# Altium schematic symbol library lib.SchLib: 480 symbols (part 5 of 6)
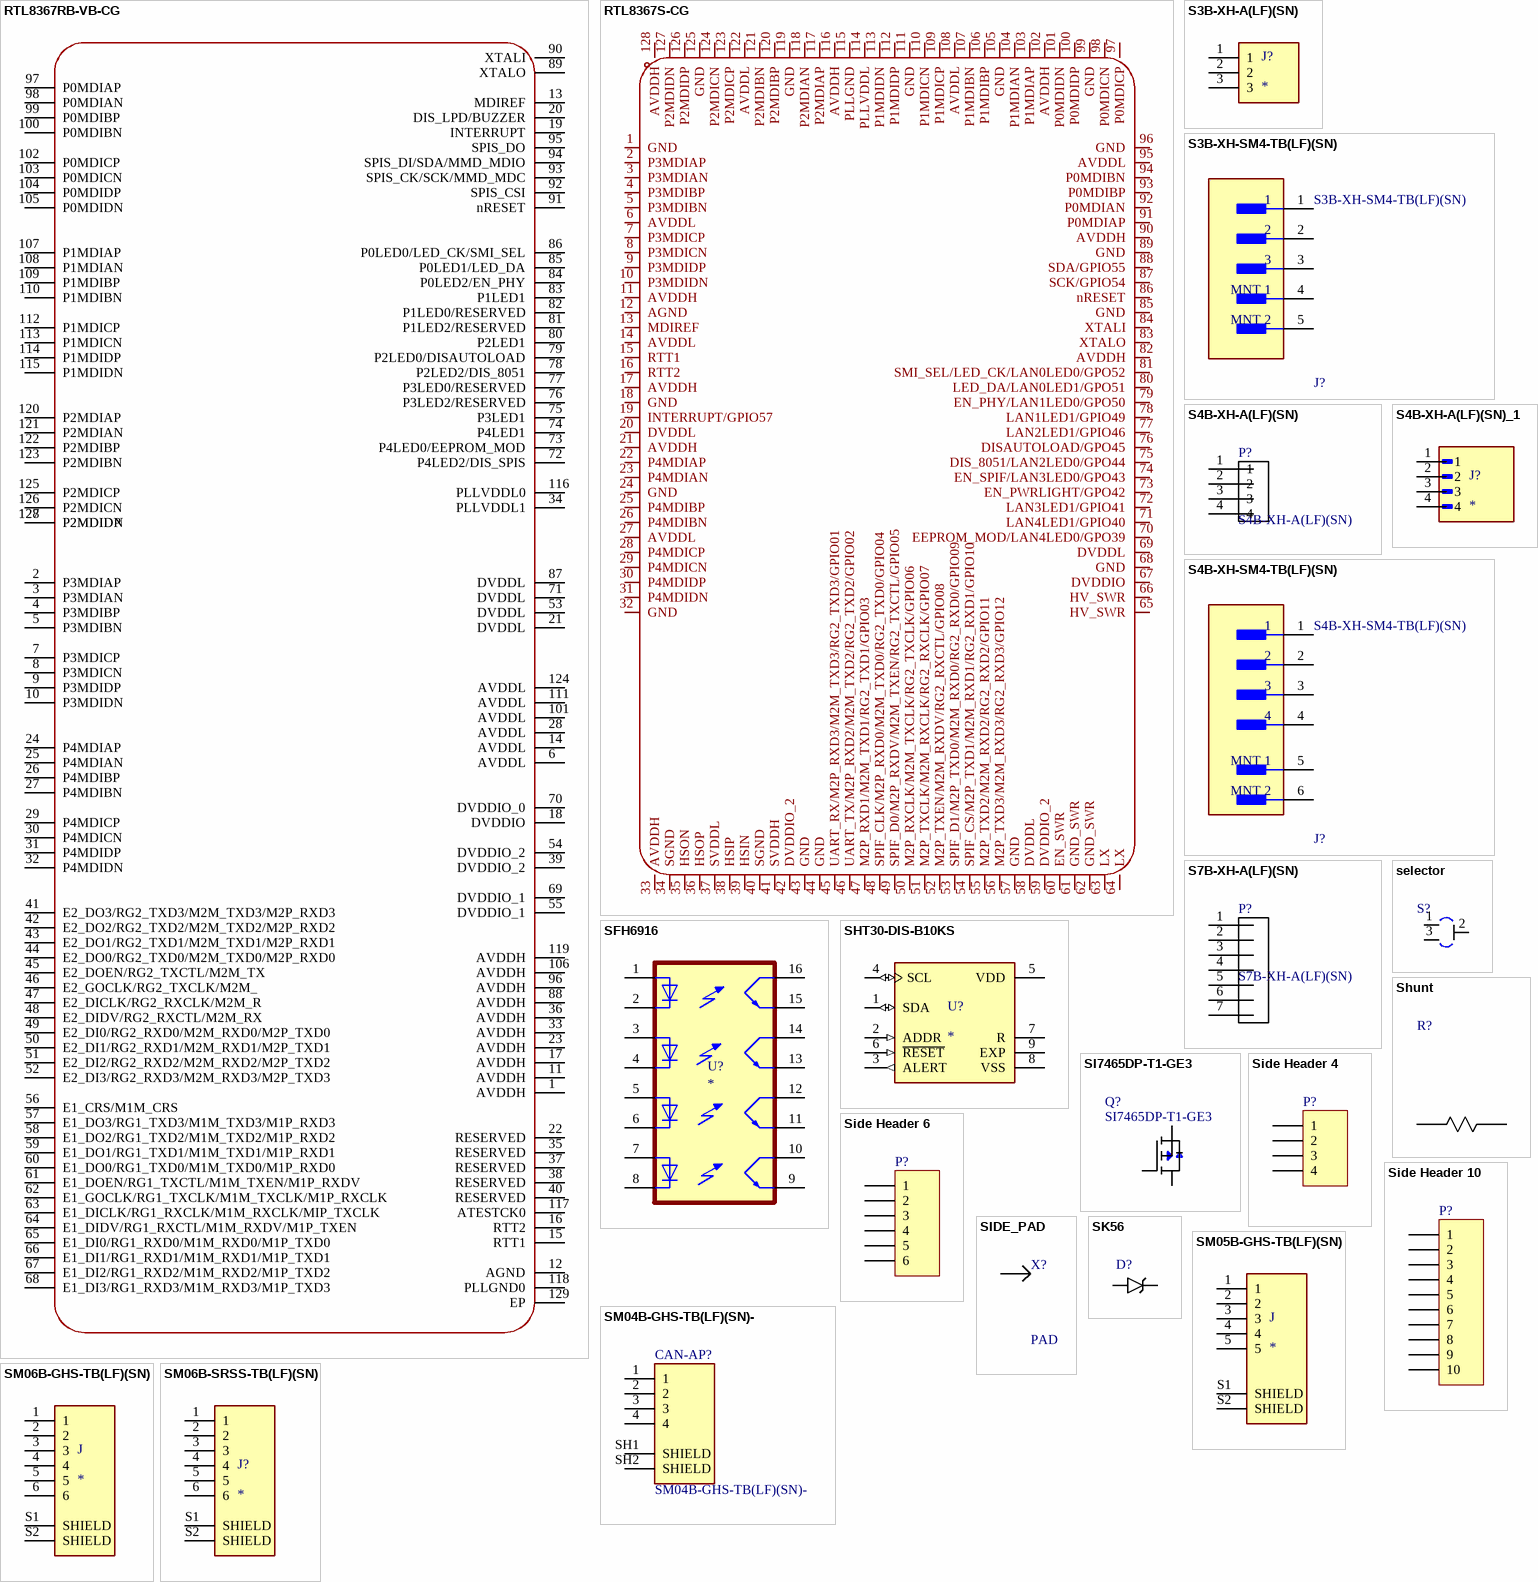
[diagram p24: symbols RTL8367RB-VB-CG to SM06B-SRSS-TB(LF)(SN)]

## RTL8367RB-VB-CG
designator U??  (value not drawn)
MF: REALTEK(瑞昱); Pacage: LQFP-128; Add into BOM: yes; Symbol: RTL8367RB-VB-CG; Device: RTL8367RB-VB-CG; LCSC Part Name: RTL8367RB-VB-CG; Supplier Part: C2761412; MP: RTL8367RB-VB-CG; JLCPCB Part Class: Extended Part; HelpURL: https://lcsc.com/product-detail/Ethernet-Transceivers_Realtek-Semicon-RTL8367RB-VB-CG_C2761412.html?s_z=n_rtl8367; Supplier: LCSC; Convert to PCB: yes; Applications Function: -; Number of Channels: -; Interface: -
footprint LQFP-128_L14.0-W14.0-P0.40-LS16.0-BL-EP5.8
pins: 1 AVDDH, 2 P3MDIAP, 3 P3MDIAN, 4 P3MDIBP, 5 P3MDIBN, 6 AVDDL, 7 P3MDICP, 8 P3MDICN, 9 P3MDIDP, 10 P3MDIDN, 11 AVDDH, 12 AGND, 13 MDIREF, 14 AVDDL, 15 RTT1, 16 RTT2, 17 AVDDH, 18 DVDDIO, 19 INTERRUPT, 20 DIS_LPD/BUZZER, 21 DVDDL, 22 RESERVED, 23 AVDDH, 24 P4MDIAP, 25 P4MDIAN, 26 P4MDIBP, 27 P4MDIBN, 28 AVDDL, 29 P4MDICP, 30 P4MDICN, 31 P4MDIDP, 32 P4MDIDN, 33 AVDDH, 34 PLLVDDL1, 35 RESERVED, 36 AVDDH, 37 RESERVED, 38 RESERVED, 39 DVDDIO_2, 40 RESERVED, 41 E2_DO3/RG2_TXD3/M2M_TXD3/M2P_RXD3, 42 E2_DO2/RG2_TXD2/M2M_TXD2/M2P_RXD2, 43 E2_DO1/RG2_TXD1/M2M_TXD1/M2P_RXD1, 44 E2_DO0/RG2_TXD0/M2M_TXD0/M2P_RXD0, 45 E2_DOEN/RG2_TXCTL/M2M_TX, 46 E2_GOCLK/RG2_TXCLK/M2M_, 47 E2_DICLK/RG2_RXCLK/M2M_R, 48 E2_DIDV/RG2_RXCTL/M2M_RX, 49 E2_DI0/RG2_RXD0/M2M_RXD0/M2P_TXD0, 50 E2_DI1/RG2_RXD1/M2M_RXD1/M2P_TXD1, 51 E2_DI2/RG2_RXD2/M2M_RXD2/M2P_TXD2, 52 E2_DI3/RG2_RXD3/M2M_RXD3/M2P_TXD3, 53 DVDDL, 54 DVDDIO_2, 55 DVDDIO_1, 56 E1_CRS/M1M_CRS, 57 E1_DO3/RG1_TXD3/M1M_TXD3/M1P_RXD3, 58 E1_DO2/RG1_TXD2/M1M_TXD2/M1P_RXD2, 59 E1_DO1/RG1_TXD1/M1M_TXD1/M1P_RXD1, 60 E1_DO0/RG1_TXD0/M1M_TXD0/M1P_RXD0, 61 E1_DOEN/RG1_TXCTL/M1M_TXEN/M1P_RXDV, 62 E1_GOCLK/RG1_TXCLK/M1M_TXCLK/M1P_RXCLK, 63 E1_DICLK/RG1_RXCLK/M1M_RXCLK/MIP_TXCLK, 64 E1_DIDV/RG1_RXCTL/M1M_RXDV/M1P_TXEN, 65 E1_DI0/RG1_RXD0/M1M_RXD0/M1P_TXD0, 66 E1_DI1/RG1_RXD1/M1M_RXD1/M1P_TXD1, 67 E1_DI2/RG1_RXD2/M1M_RXD2/M1P_TXD2, 68 E1_DI3/RG1_RXD3/M1M_RXD3/M1P_TXD3, 69 DVDDIO_1, 70 DVDDIO_0, 71 DVDDL, 72 P4LED2/DIS_SPIS, 73 P4LED0/EEPROM_MOD, 74 P4LED1, 75 P3LED1, 76 P3LED2/RESERVED, 77 P3LED0/RESERVED, 78 P2LED2/DIS_8051, 79 P2LED0/DISAUTOLOAD, 80 P2LED1, 81 P1LED2/RESERVED, 82 P1LED0/RESERVED, 83 P1LED1, 84 P0LED2/EN_PHY, 85 P0LED1/LED_DA, 86 P0LED0/LED_CK/SMI_SEL, 87 DVDDL, 88 AVDDH, 89 XTALO, 90 XTALI, 91 nRESET, 92 SPIS_CSI, 93 SPIS_CK/SCK/MMD_MDC, 94 SPIS_DI/SDA/MMD_MDIO, 95 SPIS_DO, 96 AVDDH, 97 P0MDIAP, 98 P0MDIAN, 99 P0MDIBP, 100 P0MDIBN, 101 AVDDL, 102 P0MDICP, 103 P0MDICN, 104 P0MDIDP, 105 P0MDIDN, 106 AVDDH, 107 P1MDIAP, 108 P1MDIAN, 109 P1MDIBP, 110 P1MDIBN, 111 AVDDL, 112 P1MDICP, 113 P1MDICN, 114 P1MDIDP, 115 P1MDIDN, 116 PLLVDDL0, 117 ATESTCK0, 118 PLLGND0, 119 AVDDH, 120 P2MDIAP, 121 P2MDIAN, 122 P2MDIBP, 123 P2MDIBN, 124 AVDDL, 125 P2MDICP, 126 P2MDICN, 127 P2MDIDP, 128 P2MDIDN, 129 EP

## RTL8367S-CG
designator U?  (value not drawn)
MF: REALTEK(瑞昱); Pacage: LQFP-128(14x14); Add into BOM: yes; Interface: RGMII；SGMII；HSGMII；MII; Voltage - Supply: 3.3V; Symbol: RTL8367S-CG; Device: RTL8367S-CG; LCSC Part Name: 5+2端口10/100/1000M交换控制器; Supplier Part: C2760849; MP: RTL8367S-CG; JLCPCB Part Class: Extended Part; HelpURL: https://atta.szlcsc.com/upload/public/pdf/source/20210312/C2760849_DBB14B3E68930BABDDEF1D9096175019.pdf; Supplier: LCSC; Convert to PCB: yes; Applications Function: -; Number of Channels: -; Operating Temperature: -
footprint LQFP-128_L14.0-W14.0-P0.40-LS16.0-BL
pins: 1 GND, 2 P3MDIAP, 3 P3MDIAN, 4 P3MDIBP, 5 P3MDIBN, 6 AVDDL, 7 P3MDICP, 8 P3MDICN, 9 P3MDIDP, 10 P3MDIDN, 11 AVDDH, 12 AGND, 13 MDIREF, 14 AVDDL, 15 RTT1, 16 RTT2, 17 AVDDH, 18 GND, 19 INTERRUPT/GPIO57, 20 DVDDL, 21 AVDDH, 22 P4MDIAP, 23 P4MDIAN, 24 GND, 25 P4MDIBP, 26 P4MDIBN, 27 AVDDL, 28 P4MDICP, 29 P4MDICN, 30 P4MDIDP, 31 P4MDIDN, 32 GND, 33 AVDDH, 34 SGND, 35 HSON, 36 HSOP, 37 SVDDL, 38 HSIP, 39 HSIN, 40 SGND, 41 SVDDH, 42 DVDDIO_2, 43 GND, 44 GND, 45 UART_RX/M2P_RXD3/M2M_TXD3/RG2_TXD3/GPIO01, 46 UART_TX/M2P_RXD2/M2M_TXD2/RG2_TXD2/GPIO02, 47 M2P_RXD1/M2M_TXD1/RG2_TXD1/GPIO03, 48 SPIF_CLK/M2P_RXD0/M2M_TXD0/RG2_TXD0/GPIO04, 49 SPIF_D0/M2P_RXDV/M2M_TXEN/RG2_TXCTL/GPIO05, 50 M2P_RXCLK/M2M_TXCLK/RG2_TXCLK/GPIO06, 51 M2P_TXCLK/M2M_RXCLK/RG2_RXCLK/GPIO07, 52 M2P_TXEN/M2M_RXDV/RG2_RXCTL/GPIO08, 53 SPIF_D1/M2P_TXD0/M2M_RXD0/RG2_RXD0/GPIO09, 54 SPIF_CS/M2P_TXD1/M2M_RXD1/RG2_RXD1/GPIO10, 55 M2P_TXD2/M2M_RXD2/RG2_RXD2/GPIO11, 56 M2P_TXD3/M2M_RXD3/RG2_RXD3/GPIO12, 57 GND, 58 DVDDL, 59 DVDDIO_2, 60 EN_SWR, 61 GND_SWR, 62 GND_SWR, 63 LX, 64 LX, 65 HV_SWR, 66 HV_SWR, 67 DVDDIO, 68 GND, 69 DVDDL, 70 EEPROM_MOD/LAN4LED0/GPO39, 71 LAN4LED1/GPIO40, 72 LAN3LED1/GPIO41, 73 EN_PWRLIGHT/GPO42, 74 EN_SPIF/LAN3LED0/GPO43, 75 DIS_8051/LAN2LED0/GPO44, 76 DISAUTOLOAD/GPO45, 77 LAN2LED1/GPIO46, 78 LAN1LED1/GPIO49, 79 EN_PHY/LAN1LED0/GPO50, 80 LED_DA/LAN0LED1/GPO51, 81 SMI_SEL/LED_CK/LAN0LED0/GPO52, 82 AVDDH, 83 XTALO, 84 XTALI, 85 GND, 86 nRESET, 87 SCK/GPIO54, 88 SDA/GPIO55, 89 GND, 90 AVDDH, 91 P0MDIAP, 92 P0MDIAN, 93 P0MDIBP, 94 P0MDIBN, 95 AVDDL, 96 GND, 97 P0MDICP, 98 P0MDICN, 99 GND, 100 P0MDIDP, 101 P0MDIDN, 102 AVDDH, 103 P1MDIAP, 104 P1MDIAN, 105 GND, 106 P1MDIBP, 107 P1MDIBN, 108 AVDDL, 109 P1MDICP, 110 P1MDICN, 111 GND, 112 P1MDIDP, 113 P1MDIDN, 114 PLLVDDL, 115 PLLGND, 116 AVDDH, 117 P2MDIAP, 118 P2MDIAN, 119 GND, 120 P2MDIBP, 121 P2MDIBN, 122 AVDDL, 123 P2MDICP, 124 P2MDICN, 125 GND, 126 P2MDIDP, 127 P2MDIDN, 128 AVDDH

## S3B-XH-A(LF)(SN)
designator J?
Connector Header Through Hole, Right Angle 3 position 0.098 _2.50mm_; MP: S3B-XH-A_LF__SN_; MF: JST Sales; SnapEDA_Link: https://www.snapeda.com/parts/S3B-XH-A%28LF%29%28SN%29/JST%20Sales%20America%20Inc./view-part/46873/?ref=snap; Package: FakePackage u; Value: *; HelpURL: https://static.chipdip.ru/lib/060/DOC000060506.pdf
footprint JST_S3B-XH-A(LF)(SN)
pins: 1, 2, 3

## S3B-XH-SM4-TB(LF)(SN)
designator J?
CONN HEADER SMD R/A 3POS 2.5MM; MF: JST Sales; System: Connector; Number of Positions: 3; Max Current Rating: 3A; Gender: Male; Max Voltage Rating (AC): 250V; Contact Resistance: 20mR; Connector Type: Male Pin; MP: S3B-XH-SM4-TB(LF)(SN); HelpURL: https://www.lcsc.com/product-detail/C5306495.html; Packaging: Tape and Reel; Number of Contacts: 3; REACH SVHC: No SVHC; Housing Color: Beige; Mount: Surface Mount; Contact Material: Copper Alloy; Package Quantity: 1; Color: Natural; Min Operating Temperature: -25°C; Termination: Solder; Fastening Type: Detent; Pitch: 2.5mm; Lead Free: Lead Free; Length: 12.5mm; Depth: 10mm; Contact Plating: Tin; Contact Type: Male Pin
footprint FP-S3B-XH-SM4-TB_LF_SN-MFG
pins: 1, 2, 3, 4 MNT 1, 5 MNT 2

## S4B-XH-A(LF)(SN)
designator P?
XH Series 4 Position 2.5 mm Through Hole Right Angle Press Fit Shrouded Header; MF: JST Sales; Package: None; SnapEDA_Link: https://www.snapeda.com/parts/S4B-XH-A%28LF%29%28SN%29/JST%20Sales%20America%20Inc./view-part/?ref=snap; MP: S4B-XH-A(LF)(SN); Value: *; HelpURL: https://static.chipdip.ru/lib/060/DOC000060506.pdf
footprint *JST_S4B-XH-A(LF)(SN)
pins: 1, 2, 3, 4

## S4B-XH-A(LF)(SN)_1
designator J?
MP: S4B-XH-A(LF)(SN); Package: None; Price: None; Value: *; Availability: Unavailable; HelpURL: *
footprint JST_S4B-XH-A(LF)(SN)
pins: 1, 2, 3, 4

## S4B-XH-SM4-TB(LF)(SN)
designator J?
CONN HEADER SMD R/A 4POS 2.5MM; MF: JST Sales; System: Beige; Max Current Rating: 3A; Max Voltage Rating (AC): 250V; Connector Type: Male Pin; Contact Resistance: 20mR; Gender: Male; Pitch: 0.098inch; Number of Contacts: 4; MP: S4B-XH-SM4-TB(LF)(SN); HelpURL: https://www.lcsc.com/product-detail/C161861.html; Depth: 10mm; Series: XH; Package Quantity: 1; Length: 15mm; Contact Material: Copper Alloy; Min Operating Temperature: -25°C; REACH SVHC: No SVHC; Orientation: Right Angle; Number of Rows: 1; Contact Type: Male Pin; Color: Natural; Lead Free: Lead Free; Termination: Solder; Mount: Surface Mount; Packaging: Tape and Reel
footprint FP-S4B-XH-SM4-TB_LF_SN-MFG
pins: 1, 2, 3, 4, 5 MNT 1, 6 MNT 2

## S7B-XH-A(LF)(SN)
designator P?
XH Series 7 Position 2.5 mm Through Hole Right Angle Press Fit Shrouded Header; MP: S7B-XH-A_LF__SN_; MF: JST Sales; Package: None; SnapEDA_Link: https://www.snapeda.com/parts/S4B-XH-A%28LF%29%28SN%29/JST%20Sales%20America%20Inc./view-part/?ref=snap; Value: *; HelpURL: https://static.chipdip.ru/lib/060/DOC000060506.pdf
footprint *JST_S7B-XH-A(LF)(SN)
pins: 1, 2, 3, 4, 5, 6, 7

## selector
designator S?  (value not drawn)
footprint SELECTOR
pins: 1 IN1, 2 MID, 3 IN3

## SFH6916
designator U?
MP: SFH6916; MF: {'manufacturer': u'Vishay'}; Package: None; Value: *; ChipDip_Link: https://www.chipdip.ru/product/sfh6916-vishay; HelpURL: https://static.chipdip.ru/lib/832/DOC004832103.pdf
footprint SOIC127P686X203-16N
pins: 1 A1, 2 C1, 3 A2, 4 C2, 5 A3, 6 C3, 7 A4, 8 C4, 9 E4, 10 CO4, 11 E3, 12 CO3, 13 E2, 14 CO2, 15 E1, 16 CO1

## SHT30-DIS-B10KS
designator U?
SENSOR HUMID/TEMP 5V I2C 2% SMD; MP: SHT30-DIS-B10KS; Package: None; Price: None; Value: *; Availability: Unavailable; HelpURL: https://www.mouser.com/datasheet/2/682/Sensirion_Humidity_Sensors_SHT3x_Datasheet_digital-971521.pdf
footprint XDCR_SHT30-DIS-B10KS
pins: 1 SDA (io), 2 ADDR (in), 3 ALERT (out), 4 SCL (io), 5 VDD (power), 6 ~{RESET} (in), 7 R, 8 VSS (power), 9 EXP

## Shunt
designator R?
TLRS157560QR001FTDG SMD 7 Вт R001 0,001 Ом Точность 1% SMD 1575; Package: 1575; SnapEDA_Link: https://aliexpress.ru/item/32903300292.html; MP: TLRS157560QR001FTDG; Value: *; HelpURL: https://static.chipdip.ru/lib/760/DOC000760853.pdf
footprint SHUNT
pins: 1, 2

## SI7465DP-T1-GE3
designator Q?
SI7465DP-T1-GE3 P-Channel 60 V (D-S) MOSFET; Value: *; ChipDip_Link: https://www.chipdip.ru/product1/8000893925; HelpURL: https://www.vishay.com/docs/73113/73113.pdf
footprint PowerTDFN-8
pins: D, G, S

## Side Header 4
designator P?
Header, 4-Pin
signal-integrity model Connector
footprint HDR1X4 (Connector; Header; 4 Position)
pins: 1, 2, 3, 4

## Side Header 6
designator P?
Header, 4-Pin
signal-integrity model Connector
footprint HDR Side 6 pin
footprint 6pin 1.5pitch
pins: 1, 2, 3, 4, 5, 6

## Side Header 10
designator P?
Header, 4-Pin
signal-integrity model Connector
footprint WING X5
pins: 1, 2, 3, 4, 5, 6, 7, 8, 9, 10

## SIDE_PAD
designator X?, comment PAD
Header 1; System: Connector; MF: Connfly electronic (Zhenqin); MP: PLS-3 (DS1021-1x3); Type: SMD; ChipDip_Link: https://www.chipdip.ru/product/pls-3; HelpURL: https://static.chipdip.ru/lib/227/DOC000227157.pdf
footprint SIDE_PAD
pins: 1

## SK56
designator D?  (value not drawn)
Диод Шоттки 5А 60В [SMB / DO-214AA]; MF: Littelfuse Inc.; Type: SMD; MP: SK56; Package: DO-214 Littelfuse; SnapEDA_Link: https://www.snapeda.com/parts/P6SMB62AT3G/Littelfuse%20Inc./view-part/?ref=snap; Value: *; ChipDip_Link: https://www.chipdip.ru/product/sk56
footprint *SMB_P6SMB62AT3G(Primary)
pins: A (power), C (power)

## SM04B-GHS-TB(LF)(SN)-
designator CAN-AP?
Connector Header Surface Mount, Right Angle 4 position 0.049 _1.25mm_; MF: JST Sales; MP: SM04B-GHS-TB(LF)(SN); Package: None; Value: *; SnapEDA_Link: https://www.snapeda.com/parts/SM04B-GHS-TB%28LF%29%28SN%29-/JST%20Sales%20America%20Inc./view-part/2759740/?ref=snap; HelpURL: http://www.farnell.com/datasheets/2082975.pdf; System: Connector; ChipDip_Link: https://www.chipdip.ru/product/sm04b-ghs-tb-lf-sn-gh-1.25mm-header-side-ent
footprint JST_SM04B-GHS-TB(LF)(SN)-
pins: 1, 2, 3, 4, SH1 SHIELD (power), SH2 SHIELD (power)

## SM05B-GHS-TB(LF)(SN)
designator J
Connector Header Surface Mount, Right Angle 5 position 0.049" (1.25mm); MP: SM05B-GHS-TB_LF__SN_; MF: JST Sales; Value: *; Package: None; SnapEDA_Link: https://www.snapeda.com/parts/SM06B-GHS-TB%28LF%29%28SN%29/JST%20Sales%20America%20Inc./view-part/817690/?ref=snap; HelpURL: http://www.farnell.com/datasheets/2082975.pdf; System: Connector; ChipDip_Link: https://www.chipdip.ru/product1/8002005407
footprint JST_SM05B-GHS-TB(LF)(SN)
pins: 1, 2, 3, 4, 5, S1 SHIELD, S2 SHIELD

## SM06B-GHS-TB(LF)(SN)
designator J
Connector Header Surface Mount, Right Angle 6 position 0.049" (1.25mm); MP: SM06B-GHS-TB_LF__SN_; MF: JST Sales; Value: *; Package: None; SnapEDA_Link: https://www.snapeda.com/parts/SM06B-GHS-TB%28LF%29%28SN%29/JST%20Sales%20America%20Inc./view-part/817690/?ref=snap; HelpURL: http://www.farnell.com/datasheets/2082975.pdf; System: Connector; ChipDip_Link: https://www.chipdip.ru/product1/8002005407
footprint JST_SM06B-GHS-TB(LF)(SN)
pins: 1, 2, 3, 4, 5, 6, S1 SHIELD, S2 SHIELD

## SM06B-SRSS-TB(LF)(SN)
designator J?
Connector Header Surface Mount, Right Angle 6 position 0.039 _1.00mm_; MP: SM06B-SRSS-TB_LF__SN_; MF: JST Sales; Package: None; Value: *; SnapEDA_Link: https://www.snapeda.com/parts/SM06B-SRSS-TB%28LF%29%28SN%29/JST%20Sales%20America%20Inc./view-part/554386/?ref=snap; Digi-Key_Purchase_URL: https://www.digikey.com/product-detail/en/jst-sales-america-inc/SM06B-SRSS-TB_LF__SN_/455-1806-1-ND/926877?utm_source=snapeda&utm_medium=aggregator&utm_campaign=symbol; Digi-Key_Part_Number: 455-1806-1-ND
footprint JST_SM06B-SRSS-TB(LF)(SN)
pins: 1, 2, 3, 4, 5, 6, S1 SHIELD, S2 SHIELD

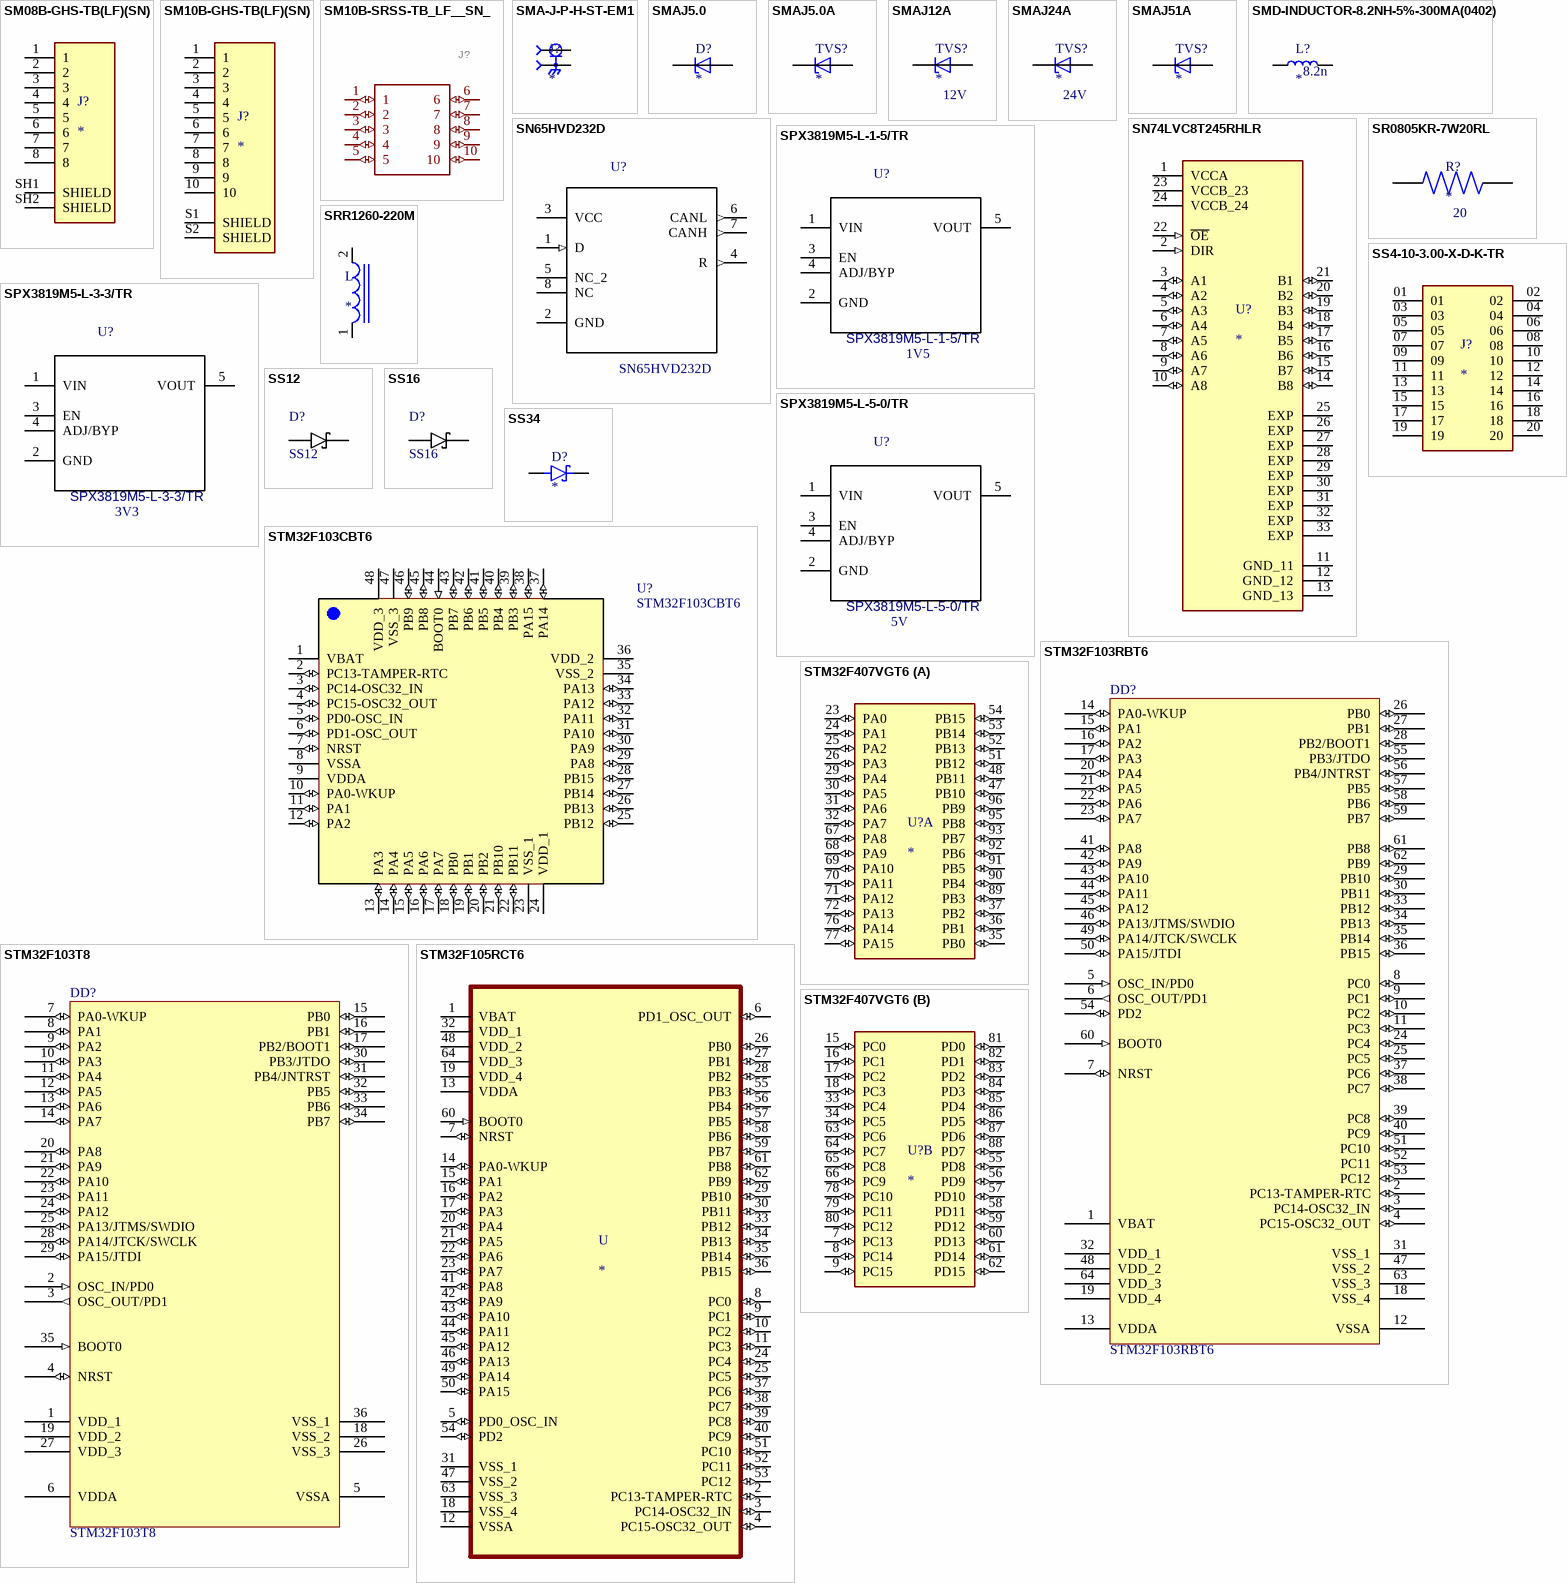
[diagram p15: symbols SM08B-GHS-TB(LF)(SN) to STM32F407VGT6]

## SM08B-GHS-TB(LF)(SN)
designator J?
Connector Header Surface Mount, Right Angle 8 position 0.049 _1.25mm_; MF: JST Sales; MP: SM08B-GHS-TB(LF)(SN); Value: *; Digi-Key_Part_Number: 455-1570-1-ND; Package: None; Digi-Key_Purchase_URL: https://www.digikey.com/product-detail/en/jst-sales-america-inc/SM08B-GHS-TB_LF__SN_/455-1570-1-ND/807838?utm_source=snapeda&utm_medium=aggregator&utm_campaign=symbol; SnapEDA_Link: https://www.snapeda.com/parts/SM08B-GHS-TB%28LF%29%28SN%29/JST%20Sales%20America%20Inc./view-part/1162121/?ref=snap
footprint JST_SM08B-GHS-TB(LF)(SN)
pins: 1, 2, 3, 4, 5, 6, 7, 8, SH1 SHIELD, SH2 SHIELD

## SM10B-GHS-TB(LF)(SN)
designator J?
Connector Header Surface Mount, Right Angle 10 position 0.049 (1.25mm); MF: JST Sales; MP: SM10B-GHS-TB(LF)(SN); Purchase-URL: https://pricing.snapeda.com/search/part/SM10B-GHS-TB(LF)(SN)/?ref=eda; Package: None; Value: *; Check_prices: https://www.snapeda.com/parts/SM10B-GHS-TB(LF)(SN)/JST+Sales+America+Inc./view-part/?ref=eda; SnapEDA_Link: https://www.snapeda.com/parts/SM10B-GHS-TB(LF)(SN)/JST+Sales+America+Inc./view-part/?ref=snap; Availability: In Stock; Price: None
footprint JST_SM10B-GHS-TB(LF)(SN)
pins: 1, 2, 3, 4, 5, 6, 7, 8, 9, 10, S1 SHIELD, S2 SHIELD

## SM10B-SRSS-TB_LF__SN_
designator J?, comment JST (JAPAN SOLDERLESS TERMINALS) - SM10B-SRSS-TB(LF)(SN) - HEADER, R/A, 10WAY   Source:  Datasheet  (value not drawn)
GateName_1: G$1; SymbolName_1: SM10B-SRSS-TB_LF__SN_; MF: JST Sales; LibraryName: SM10B-SRSS-TB_LF__SN_; DeviceSetName: SM10B-SRSS-TB_LF__SN_; Package: SM10B-SRSS-TB; Manufacturer_Name: JST (JAPAN SOLDERLESS TERMINALS); Manufacturer_Part_Number: SM10B-SRSS-TB(LF)(SN); Height: mm; MP: SM10B-SRSS-TB; HelpURL: https://www.farnell.com/datasheets/2082363.pdf
footprint SM10B-SRSS-TB
pins: 1 (io), 2 (io), 3 (io), 4 (io), 5 (io), 6 (io), 7 (io), 8 (io), 9 (io), 10 (io)

## SMA-J-P-H-ST-EM1
designator J?
SMA Connector Jack, Female Socket 50Ohm Board Edge, End Launch Solder; MF: Samtec; MP: SMA-J-P-H-ST-EM1; SnapEDA_Link: https://www.snapeda.com/parts/SMA-J-P-H-ST-EM1/Samtec%20Inc./view-part/134500/?ref=snap; Value: *; Package: None
footprint SAMTEC_SMA-J-P-H-ST-EM1
pins: 1, 2_1 2, 2_2 2, 3_1 2, 3_2 2

## SMAJ5.0
designator D?
400W, 6.9V, 10%, Unidirectional, TVS; MP: SMAJ5.0; MF: Taiwan Semiconductor; SnapEDA_Link: https://www.snapeda.com/parts/SMAJ5.0/Taiwan+Semiconductor/view-part/?ref=snap; Value: *; Package: DO-214AC-2 Taiwan Semiconductor; Price: None; Availability: In Stock; Check_prices: https://www.snapeda.com/parts/SMAJ5.0/Taiwan+Semiconductor/view-part/?ref=eda
footprint DIOM4325X250N
pins: A, C

## SMAJ5.0A
designator TVS?
5V Clamp 174A (8/20Âµs) Ipp Tvs Diode Surface Mount SMA (DO-214AC); MP: SMAJ5.0A; MF: STMicroelectronics; Value: 5v; Package: DO-214 STMicroelectronics; HelpURL: https://www.lcsc.com/datasheet/C83324.pdf
footprint DIOM4325X250N
pins: A, C

## SMAJ12A
designator TVS?  value 12V
400W, 12V, 5%, Unidirectional, TVS; MF: Taiwan Semiconductor; MP: SMAJ12A; SnapEDA_Link: https://www.snapeda.com/parts/SMAJ30A/taiwan/view-part/?ref=snap; Package: SMA-2 Taiwan Semiconductor; Check_prices: https://www.snapeda.com/parts/SMAJ30A/taiwan/view-part/?ref=eda; HelpURL: https://www.lcsc.com/datasheet/C83324.pdf
footprint DIOM4325X250N
pins: A, C

## SMAJ24A
designator TVS?  value 24V
400W, 24V, 5%, Unidirectional, TVS; MF: Taiwan Semiconductor; MP: SMAJ24A; SnapEDA_Link: https://www.snapeda.com/parts/SMAJ30A/taiwan/view-part/?ref=snap; Package: SMA-2 Taiwan Semiconductor; Check_prices: https://www.snapeda.com/parts/SMAJ30A/taiwan/view-part/?ref=eda; HelpURL: https://www.lcsc.com/datasheet/C83324.pdf
footprint DIOM4325X250N
pins: A, C

## SMAJ51A
designator TVS?
MF: Diodes Incorporated; Value: 51V; MP: SMAJ51A; Package: None; Price: None; Availability: Unavailable; HelpURL: https://www.lcsc.com/datasheet/C83324.pdf
footprint DIOM4325X250N
pins: A, C

## SMD-INDUCTOR-8.2NH-5%-300MA(0402)
designator L?  value 8.2n
8.2nH Unshielded Multilayer Inductor 550mA 240mOhm Max 0402 (1005 Metric); MP: LQG15HS8N2J02; MF: Murata Electronics; Price: None; SnapEDA_Link: https://www.snapeda.com/parts/LQG15HS8N2J02/Murata%20Electronics%20North%20America/view-part/105834/?ref=snap; Availability: Unavailable; Package: 0402 Murata; HelpURL: https://nl.mouser.com/datasheet/2/281/1/JELF243B_0010-1699614.pdf
footprint L0402
pins: 1, 2

## SN65HVD232D
designator U?
Integrated circuit: interface; CAN transceiver; Channels: 1; SO8; MF: Texas Instruments; Package: SOIC-8 Texas Instruments; SnapEDA_Link: https://www.snapeda.com/parts/SN65HVD232D/Texas%20Instruments/view-part/?ref=snap; MP: SN65HVD232D; Value: *
footprint *SOIC127P600X175-8N
pins: 1 D (in), 2 GND, 3 VCC (power), 4 R (out), 5 NC_2, 6 CANL (out), 7 CANH (out), 8 NC

## SN74LVC8T245RHLR
designator U?
8-Bit Dual-Supply Bus Transceiver with Configurable Voltage-Level Shifting and Three-State Outputs 24-VQFN -40 to 85; MF: Texas Instruments; MP: SN74LVC8T245RHLR; SnapEDA_Link: https://www.snapeda.com/parts/SN74LVC8T245RHLR/Texas%20Instruments/view-part/95619/?ref=snap; Package: VQFN-24 Texas Instruments; Value: *; ChipDip_Link: https://www.chipdip.ru/product0/8000624338; HelpURL: https://www.ti.com/lit/ds/symlink/sn74lvc8t245.pdf?HQS=dis-mous-null-mousermode-dsf-pf-null-wwe&ts=1619589812469&ref_url=https%253A%252F%252Fru.mouser.com%252F
footprint IC_SN74LVC8T245RHLR
pins: 1 VCCA (power), 2 DIR (in), 3 A1 (io), 4 A2 (io), 5 A3 (io), 6 A4 (io), 7 A5 (io), 8 A6 (io), 9 A7 (io), 10 A8 (io), 11 GND_11 (power), 12 GND_12 (power), 13 GND_13 (power), 14 B8 (io), 15 B7 (io), 16 B6 (io), 17 B5 (io), 18 B4 (io), 19 B3 (io), 20 B2 (io), 21 B1 (io), 22 ~{OE} (in), 23 VCCB_23 (power), 24 VCCB_24 (power), 25 EXP, 26 EXP, 27 EXP, 28 EXP, 29 EXP, 30 EXP, 31 EXP, 32 EXP, 33 EXP

## SPX3819M5-L-1-5/TR
designator U?  value 1V5  (hidden comment: SPX3819M5-L-1-5/TR)
Low Dropout Voltage Regulator, 1.5V 0.5A, В±1%, 2.5 to 16 Vin, 5-Pin SOT-23; MF: MaxLinear, Inc.; Package: SOT-23-5 Exar; SnapEDA_Link: https://www.snapeda.com/parts/SPX3819M5-L/MaxLinear%2C%20Inc./view-part/?ref=snap; Type: SMD; ChipDip_Link: https://www.chipdip.ru/product/spx3819m5-l-3-3-tr; HelpURL: http://www.farnell.com/datasheets/2614478.pdf; MP: SPX3819M5-L-1-5/TR
footprint *SOT95P280X145-5N
pins: 1 VIN (power), 2 GND, 3 EN (power), 4 ADJ/BYP, 5 VOUT (power)

## SPX3819M5-L-3-3/TR
designator U?  value 3V3  (hidden comment: SPX3819M5-L-3-3/TR)
Low Dropout Voltage Regulator, 3.3V 0.5A, В±1%, 2.5 to 16 Vin, 5-Pin SOT-23; MF: MaxLinear, Inc.; Package: SOT-23-5 Exar; SnapEDA_Link: https://www.snapeda.com/parts/SPX3819M5-L/MaxLinear%2C%20Inc./view-part/?ref=snap; Type: SMD; ChipDip_Link: https://www.chipdip.ru/product/spx3819m5-l-3-3-tr; HelpURL: http://www.farnell.com/datasheets/2614478.pdf; MP: SPX3819M5-L-3-3/TR
footprint *SOT95P280X145-5N
pins: 1 VIN (power), 2 GND, 3 EN (power), 4 ADJ/BYP, 5 VOUT (power)

## SPX3819M5-L-5-0/TR
designator U?  value 5V  (hidden comment: SPX3819M5-L-5-0/TR)
Low Dropout Voltage Regulator, 5V 0.5A, В±1%, 2.5 to 16 Vin, 5-Pin SOT-23; MF: MaxLinear, Inc.; Package: SOT-23-5 Exar; SnapEDA_Link: https://www.snapeda.com/parts/SPX3819M5-L/MaxLinear%2C%20Inc./view-part/?ref=snap; Type: SMD; ChipDip_Link: https://www.chipdip.ru/product/spx3819m5-l-3-3-tr; HelpURL: http://www.farnell.com/datasheets/2614478.pdf; MP: SPX3819M5-L-5-0/TR
footprint *SOT95P280X145-5N
pins: 1 VIN (power), 2 GND, 3 EN (power), 4 ADJ/BYP, 5 VOUT (power)

## SR0805KR-7W20RL
designator R?  value 20
MP: SR0805KR-7W20RL; Package: None; Price: None; Availability: Unavailable
footprint RESC2012X60N
pins: 1, 2

## SRR1260-220M
designator L
22ÂµH Shielded Wirewound Inductor 4A 43mOhm Max Nonstandard; MF: Bourns - J.W. Miller; Value: 22u; MP: SRR1260-220M; Package: Nonstandard Bourns - J.W. Miller; Price: None; Availability: Unavailable; SnapEDA_Link: https://www.snapeda.com/parts/SRR1260-220M/Bourns%20-%20J.W.%20Miller/view-part/50176/?ref=snap; HelpURL: https://www.lcsc.com/product-detail/C3224283.html?s_z=n_4A%252022uH
footprint INDP125125X600N
pins: 1, 2

## SS4-10-3.00-X-D-K-TR
designator J?
20 Position Connector Socket, Outer Shroud Contacts Surface Mount Gold; MP: SS4-10-3.00-L-D-K-TR; MF: Samtec; SnapEDA_Link: https://www.snapeda.com/parts/SS4-10-3.00-L-D-K-TR/Samtec%20Inc./view-part/230205/?ref=snap; Package: None; Purchase-URL: https://pricing.snapeda.com/search/part/SS4-10-3.00-L-D-K-TR/?ref=eda; Availability: In Stock; Price: None; Check_prices: https://www.snapeda.com/parts/SS4-10-3.00-L-D-K-TR/Samtec%20Inc./view-part/230205/?ref=eda; Value: *
footprint SAMTEC_SS4-10-3.00-X-D-K-TR
pins: 01, 02, 03, 04, 05, 06, 07, 08, 09, 10, 11, 12, 13, 14, 15, 16, 17, 18, 19, 20

## SS12
designator D?
Diode Schottky 20V 1A Surface Mount SMA; Type: SMD; SnapEDA_Link: https://www.snapeda.com/parts/SS16/ON%20Semiconductor/view-part/?ref=search&t=ss16; Value: *; ChipDip_Link: https://www.chipdip.ru/product/ss16; HelpURL: https://www.vishay.com/docs/88746/ss12.pdf; MP: SS12; Package: SMA-2
footprint *DIOM5227X250N_SS16(Primary)
pins: A, C K

## SS16
designator D?
Diode Schottky 60V 1A Surface Mount SMA; Type: SMD; SnapEDA_Link: https://www.snapeda.com/parts/SS16/ON%20Semiconductor/view-part/?ref=search&t=ss16; Value: *; ChipDip_Link: https://www.chipdip.ru/product/ss16; HelpURL: https://www.vishay.com/docs/88746/ss12.pdf; MP: SS16; Package: SMA-2
footprint *DIOM5227X250N_SS16(Primary)
pins: A, C K

## SS34
designator D?
3A, 40V, Schottky Rectifier; MF: Taiwan Semiconductor; MP: SS34; SnapEDA_Link: https://www.snapeda.com/parts/SS34/Taiwan+Semiconductor/view-part/?ref=snap; Package: SMC-2 Taiwan Semiconductor; Value: *; Check_prices: https://www.snapeda.com/parts/SS34/Taiwan+Semiconductor/view-part/?ref=eda; HelpURL: https://www.vishay.com/docs/88751/ss32.pdf
footprint DIOM6859X262N
pins: A, C K

## STM32F103CBT6
designator U?
ARM® Cortex®-M3 STM32F1 Microcontroller IC 32-Bit 72MHz 128KB (128K x 8) FLASH; MF: STM; ChipDip_Link: https://www.chipdip.ru/product/stm32f103cbt6; HelpURL: https://static.chipdip.ru/lib/235/DOC000235733.pdf; MP: STM32F103CBT6; Package: LQFP-48; SnapEDA_Link: https://www.snapeda.com/parts/STM32F103CBT6/STMicroelectronics/view-part/?ref=search&t=STM32F103CBT6; Type: SMD
footprint STM-LQFP48_N (QFP, 48-Leads, Body 7x7mm, Pitch 0.5mm, IPC Medium Density)
footprint STM-LQFP48_L (QFP, 48-Leads, Body 7x7mm, Pitch 0.5mm, IPC High Density)
footprint STM-LQFP48_M (QFP, 48-Leads, Body 7x7mm, Pitch 0.5mm, IPC Low Density)
pins: 1 VBAT (power), 2 PC13-TAMPER-RTC (io) "PC13-TAMPER-RTC/PC13/TAMPER-RTC", 3 PC14-OSC32_IN (io) "PC14-OSC32_IN/PC14/OSC32_IN", 4 PC15-OSC32_OUT (io) "PC15-OSC32_OUT/PC15/OSC32_OUT", 5 PD0-OSC_IN (io) "PD0/OSC_IN", 6 PD1-OSC_OUT (io) "PD1/OSC_OUT", 7 NRST (io), 8 VSSA (power), 9 VDDA (power), 10 PA0-WKUP (io) "PA0-WKUP/PA0/WKUP/USART2_CTS/ADC12_IN0/TIM2_CH1_ETR", 11 PA1 (io) "PA1/USART2_RTS/ADC12_IN1/TIM2_CH2", 12 PA2 (io) "PA2/USART2_TX/ADC12_IN2/TIM2_CH3", 13 PA3 (io) "PA3/USART2_RX/ADC12_IN3/TIM2_CH4", 14 PA4 (io) "PA4/SPI1_NSS/USART2_CK/ADC12_IN4", 15 PA5 (io) "PA5/SPI1_SCK/ADC12_IN5", 16 PA6 (io) "PA6/SPI1_MISO/ADC12_IN6/TIM3_CH1/TIM1_BKIN", 17 PA7 (io) "PA7/SPI1_MOSI/ADC12_IN7/TIM3_CH2/TIM1_CH1N", 18 PB0 (io) "PB0/ADC12_IN8/TIM3_CH3/TIM1_CH2N", 19 PB1 (io) "PB1/ADC12_IN9/TIM3_CH4/TIM1_CH3N", 20 PB2 (io) "PB2/BOOT1", 21 PB10 (io) "PB10/I2C2_SCL/USART3_TX/TIM2_CH3", 22 PB11 (io) "PB11/I2C2_SDA/USART3_RX/TIM2_CH4", 23 VSS_1 (power), 24 VDD_1 (power), 25 PB12 (io) "PB12/SPI2_NSS/I2C2_SMBAl/USART3_CK/TIM1_BKIN", 26 PB13 (io) "PB13/SPI2_SCK/USART3_CTS/TIM1_CH1N", 27 PB14 (io) "PB14/SPI2_MISO/USART3_RTS/TIM1_CH2N", 28 PB15 (io) "PB15/SPI2_MOSI/TIM1_CH3N", 29 PA8 (io) "PA8/USART1_CK/TIM1_CH1/MCO", 30 PA9 (io) "PA9/USART1_TX/TIM1_CH2", 31 PA10 (io) "PA10/USART1_RX/TIM1_CH3", 32 PA11 (io) "PA11/USART1_CTS/CANRX/USBDM/TIM1_CH4", 33 PA12 (io) "PA12/USART1_RTS/CANTX/USBDP/TIM1_ETR", 34 PA13 (io) "PA13/JTMS/SWDIO", 35 VSS_2 (power), 36 VDD_2 (power), 37 PA14 (io) "PA14/JTCK/SWCLK", 38 PA15 (io) "PA15/JTDI/TIM2_CH1_ETR/SPI1_NSS", 39 PB3 (io) "PB3/JTDO/TIM2_CH2/TRACESWO/SPI1_SCK", 40 PB4 (io) "PB4/NJTRST/TIM3_CH1/SPI1_MISO", 41 PB5 (io) "PB5/I2C1_SMBAI/TIM3_CH2/SPI1_MOSI", 42 PB6 (io) "PB6/I2C1_SCL/TIM4_CH1/USART1_TX", 43 PB7 (io) "PB7/I2C1_SDA/TIM4_CH2/USART1_RX", 44 BOOT0 (in), 45 PB8 (io) "PB8/TIM4_CH3/I2C1_SCL/CANRX", 46 PB9 (io) "PB9/TIM4_CH4/I2C1_SDA/CANTX", 47 VSS_3 (power), 48 VDD_3 (power)

## STM32F103RBT6
designator DD?
STM32 ARM-based 32-bit MCU with 128 Kbytes Flash, 64-pin LQFP, Industrial Temperature; ChipDip_Link: https://www.chipdip.ru/product/stm32f103rbt6; HelpURL: http://www.farnell.com/datasheets/1963088.pdf
footprint LQFP64_N (Thin QFP, 64-Leads, Body 10x10mm, Pitch 0.5mm, IPC Medium Density)
footprint LQFP64_L (Thin QFP, 64-Leads, Body 10x10mm, Pitch 0.5mm, IPC High Density)
footprint LQFP64_M (Thin QFP, 64-Leads, Body 10x10mm, Pitch 0.5mm, IPC Low Density)
pins: 1 VBAT (power), 2 PC13-TAMPER-RTC (io), 3 PC14-OSC32_IN (io), 4 PC15-OSC32_OUT (io), 5 OSC_IN/PD0 (in), 6 OSC_OUT/PD1 (out), 7 NRST (io), 8 PC0 (io), 9 PC1 (io), 10 PC2 (io), 11 PC3 (io), 12 VSSA (power), 13 VDDA (power), 14 PA0-WKUP (io), 15 PA1 (io), 16 PA2 (io), 17 PA3 (io), 18 VSS_4 (power), 19 VDD_4 (power), 20 PA4 (io), 21 PA5 (io), 22 PA6 (io), 23 PA7 (io), 24 PC4 (io), 25 PC5 (io), 26 PB0 (io), 27 PB1 (io), 28 PB2/BOOT1 (io), 29 PB10 (io), 30 PB11 (io), 31 VSS_1 (power), 32 VDD_1 (power), 33 PB12 (io), 34 PB13 (io), 35 PB14 (io), 36 PB15 (io), 37 PC6 (io), 38 PC7 (io), 39 PC8 (io), 40 PC9 (io), 41 PA8 (io), 42 PA9 (io), 43 PA10 (io), 44 PA11 (io), 45 PA12 (io), 46 PA13/JTMS/SWDIO (io), 47 VSS_2 (power), 48 VDD_2 (power), 49 PA14/JTCK/SWCLK (io), 50 PA15/JTDI (io), 51 PC10 (io), 52 PC11 (io), 53 PC12 (io), 54 PD2 (io), 55 PB3/JTDO (io), 56 PB4/JNTRST (io), 57 PB5 (io), 58 PB6 (io), 59 PB7 (io), 60 BOOT0 (in), 61 PB8 (io), 62 PB9 (io), 63 VSS_3 (power), 64 VDD_3 (power)

## STM32F103T8
designator DD?
STM32F103T8U6, Микроконтроллер 32BIT ARM 64K FLASH [VFQFPN-36]; MF: STM; ChipDip_Link: https://www.chipdip.ru/product/stm32f103t8u6-2; HelpURL: http://www.st.com/stonline/products/literature/ds/13587.pdf; MP: STM32F103T8U6; Package: VFQFPN-36; SnapEDA_Link: https://www.snapeda.com/parts/STM32F103T8U6TR/STMicroelectronics/view-part/?ref=search&t=STM32F103T8U6; Type: SMD
footprint *QFN50P600X600X100-37N
pins: 1 VDD_1 (power), 2 OSC_IN/PD0 (in), 3 OSC_OUT/PD1 (out), 4 NRST (io), 5 VSSA (power), 6 VDDA (power), 7 PA0-WKUP (io), 8 PA1 (io), 9 PA2 (io), 10 PA3 (io), 11 PA4 (io), 12 PA5 (io), 13 PA6 (io), 14 PA7 (io), 15 PB0 (io), 16 PB1 (io), 17 PB2/BOOT1 (io), 18 VSS_2 (power), 19 VDD_2 (power), 20 PA8 (io), 21 PA9 (io), 22 PA10 (io), 23 PA11 (io), 24 PA12 (io), 25 PA13/JTMS/SWDIO (io), 26 VSS_3 (power), 27 VDD_3 (power), 28 PA14/JTCK/SWCLK (io), 29 PA15/JTDI (io), 30 PB3/JTDO (io), 31 PB4/JNTRST (io), 32 PB5 (io), 33 PB6 (io), 34 PB7 (io), 35 BOOT0 (in), 36 VSS_1 (power)

## STM32F105RCT6
designator U
ARMÂ® CortexÂ®-M3 STM32F1 Microcontroller IC 32-Bit 72MHz 256KB _256K x 8_ FLASH; MF: STMicroelectronics; MP: STM32F105RCT6; Package: LQFP-64 STMicroelectronics; Price: None; Availability: Unavailable; SnapEDA_Link: https://www.snapeda.com/parts/STM32F105RCT6/STMicroelectronics/view-part/561110/?ref=snap; Value: *
footprint QFP50P1200X1200X160-64N
pins: 1 VBAT (power), 2 PC13-TAMPER-RTC (io), 3 PC14-OSC32_IN (io), 4 PC15-OSC32_OUT (io), 5 PD0_OSC_IN (io), 6 PD1_OSC_OUT (io), 7 NRST (io), 8 PC0 (io), 9 PC1 (io), 10 PC2 (io), 11 PC3 (io), 12 VSSA (power), 13 VDDA (power), 14 PA0-WKUP (io), 15 PA1 (io), 16 PA2 (io), 17 PA3 (io), 18 VSS_4 (power), 19 VDD_4 (power), 20 PA4 (io), 21 PA5 (io), 22 PA6 (io), 23 PA7 (io), 24 PC4 (io), 25 PC5 (io), 26 PB0 (io), 27 PB1 (io), 28 PB2 (io), 29 PB10 (io), 30 PB11 (io), 31 VSS_1 (power), 32 VDD_1 (power), 33 PB12 (io), 34 PB13 (io), 35 PB14 (io), 36 PB15 (io), 37 PC6 (io), 38 PC7 (io), 39 PC8 (io), 40 PC9 (io), 41 PA8 (io), 42 PA9 (io), 43 PA10 (io), 44 PA11 (io), 45 PA12 (io), 46 PA13 (io), 47 VSS_2 (power), 48 VDD_2 (power), 49 PA14 (io), 50 PA15 (io), 51 PC10 (io), 52 PC11 (io), 53 PC12 (io), 54 PD2 (io), 55 PB3 (io), 56 PB4 (io), 57 PB5 (io), 58 PB6 (io), 59 PB7 (io), 60 BOOT0 (in), 61 PB8 (io), 62 PB9 (io), 63 VSS_3 (power), 64 VDD_3 (power)

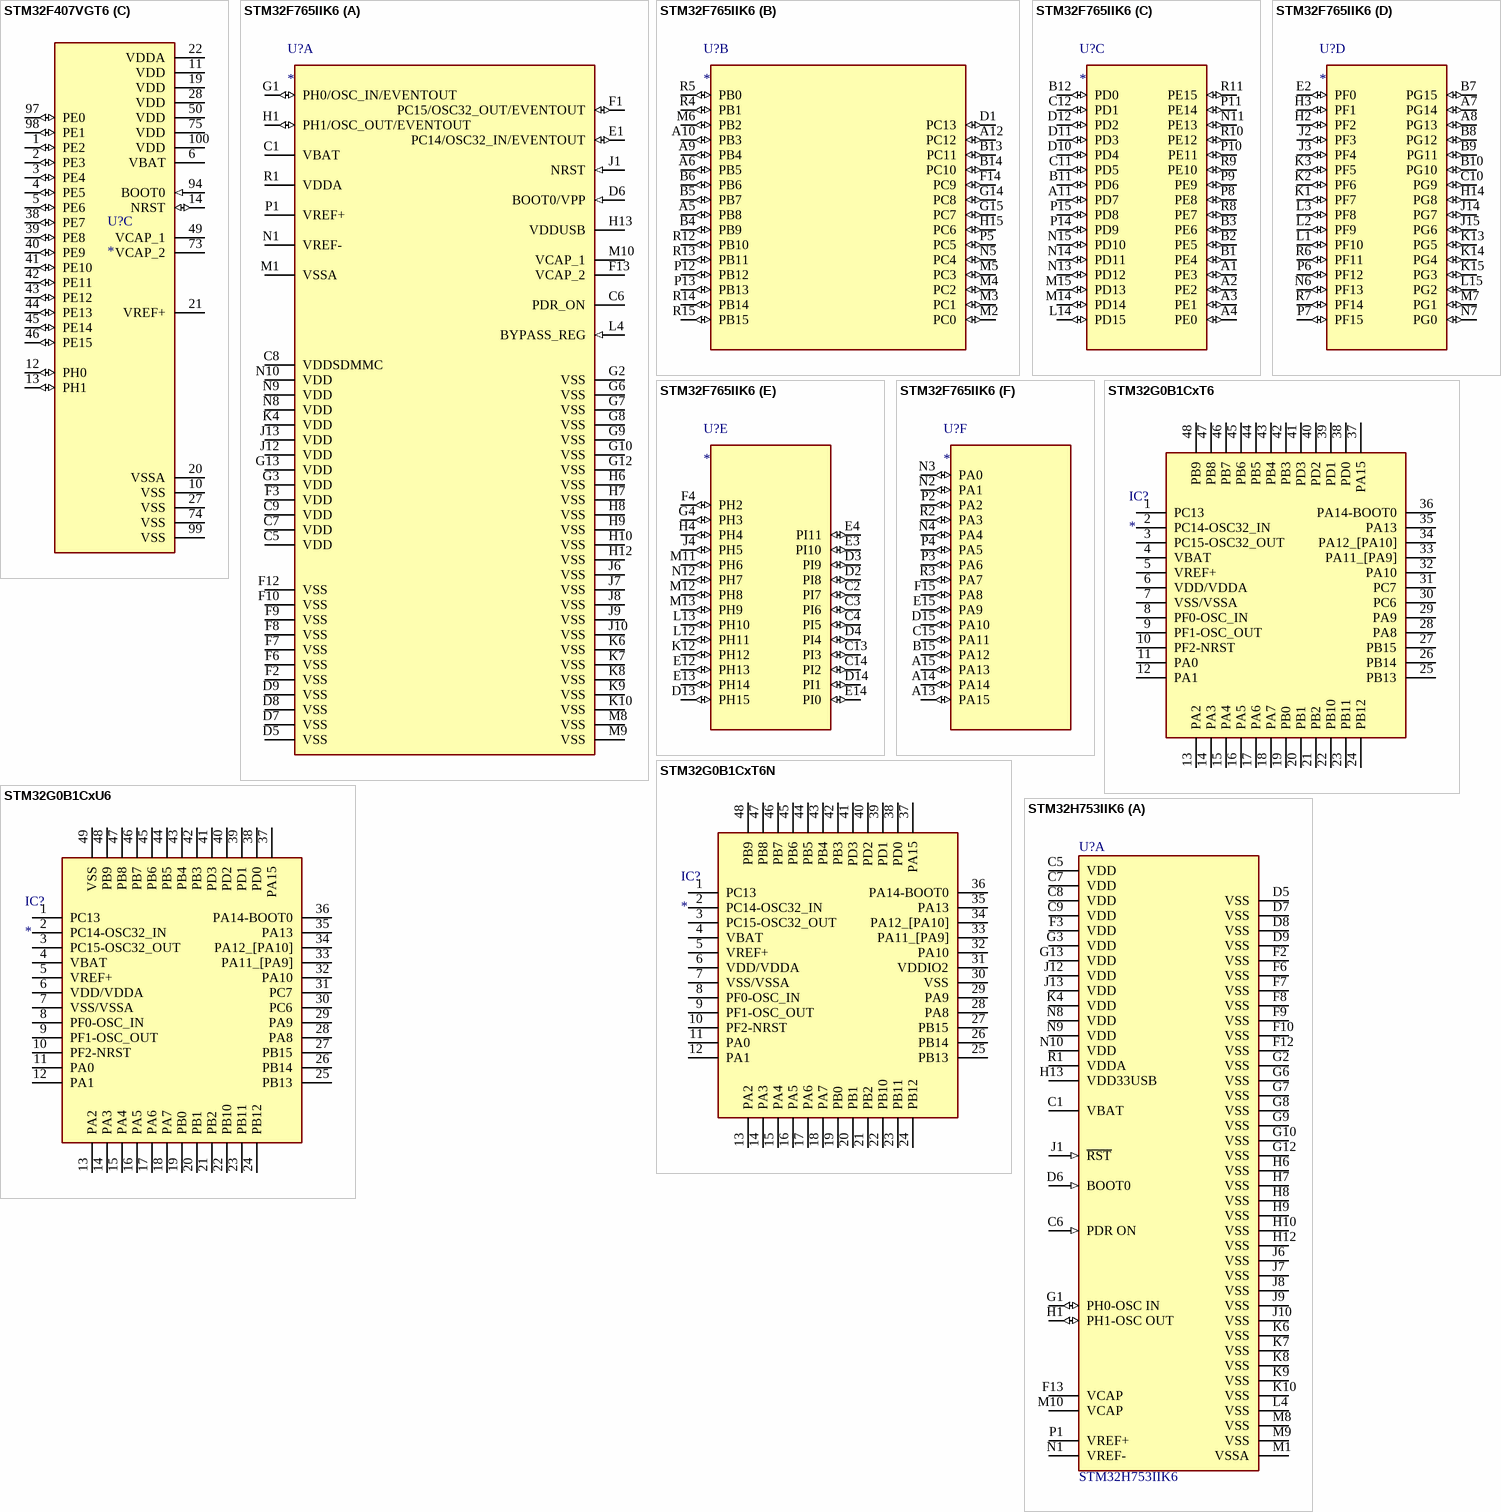
[diagram p16: symbols STM32F407VGT6 to STM32H753IIK6]

## STM32F407VGT6
designator U?
ARMÂ® CortexÂ®-M4 STM32F4 Microcontroller IC 32-Bit 168MHz 1MB _1M x 8_ FLASH 100-LQFP _14x14_; MP: STM32F407VGT6; MF: STMicroelectronics; Value: *; SnapEDA_Link: https://www.snapeda.com/parts/STM32F407VGT6/STMicroelectronics/view-part/106801/?ref=snap; Package: LQFP-100 STMicroelectronics
footprint QFP50P1600X1600X160-100N
part A pins: 23 PA0 (io), 24 PA1 (io), 25 PA2 (io), 26 PA3 (io), 29 PA4 (io), 30 PA5 (io), 31 PA6 (io), 32 PA7 (io), 35 PB0 (io), 36 PB1 (io), 37 PB2 (io), 47 PB10 (io), 48 PB11 (io), 51 PB12 (io), 52 PB13 (io), 53 PB14 (io), 54 PB15 (io), 67 PA8 (io), 68 PA9 (io), 69 PA10 (io), 70 PA11 (io), 71 PA12 (io), 72 PA13 (io), 76 PA14 (io), 77 PA15 (io), 89 PB3 (io), 90 PB4 (io), 91 PB5 (io), 92 PB6 (io), 93 PB7 (io), 95 PB8 (io), 96 PB9 (io)
part B pins: 7 PC13 (io), 8 PC14 (io), 9 PC15 (io), 15 PC0 (io), 16 PC1 (io), 17 PC2 (io), 18 PC3 (io), 33 PC4 (io), 34 PC5 (io), 55 PD8 (io), 56 PD9 (io), 57 PD10 (io), 58 PD11 (io), 59 PD12 (io), 60 PD13 (io), 61 PD14 (io), 62 PD15 (io), 63 PC6 (io), 64 PC7 (io), 65 PC8 (io), 66 PC9 (io), 78 PC10 (io), 79 PC11 (io), 80 PC12 (io), 81 PD0 (io), 82 PD1 (io), 83 PD2 (io), 84 PD3 (io), 85 PD4 (io), 86 PD5 (io), 87 PD6 (io), 88 PD7 (io)
part C pins: 1 PE2 (io), 2 PE3 (io), 3 PE4 (io), 4 PE5 (io), 5 PE6 (io), 6 VBAT (power), 10 VSS (power), 11 VDD (power), 12 PH0 (io), 13 PH1 (io), 14 NRST (io), 19 VDD (power), 20 VSSA (power), 21 VREF+ (power), 22 VDDA (power), 27 VSS (power), 28 VDD (power), 38 PE7 (io), 39 PE8 (io), 40 PE9 (io), 41 PE10 (io), 42 PE11 (io), 43 PE12 (io), 44 PE13 (io), 45 PE14 (io), 46 PE15 (io), 49 VCAP_1, 50 VDD (power), 73 VCAP_2, 74 VSS (power), 75 VDD (power), 94 BOOT0 (in), 97 PE0 (io), 98 PE1 (io), 99 VSS (power), 100 VDD (power)

## STM32F765IIK6
designator U?
ARM® Cortex®-M7 STM32F7 Microcontroller IC 32-Bit 216MHz 2MB (2M x 8) FLASH 176+25UFBGA (10x10); MP: STM32F765IIK6; MF: STMicroelectronics; Package: UFBGA-201 STMicroelectronics; Value: *; SnapEDA_Link: https://www.snapeda.com/parts/STM32F765IIK6/STMicroelectronics/view-part/659662/?ref=snap; ChipDip_Link: https://www.chipdip.ru/product/stm32f765iik6; HelpURL: https://www.st.com/resource/en/datasheet/stm32f765ii.pdf; Type: SMD
footprint BGA201C65P15X15_1000X1000X60N
part A pins: C1 VBAT (power), C5 VDD (power), C6 PDR_ON (power), C7 VDD (power), C8 VDDSDMMC (power), C9 VDD (power), D5 VSS (power), D6 BOOT0/VPP (in), D7 VSS (power), D8 VSS (power), D9 VSS (power), E1 PC14/OSC32_IN/EVENTOUT (io), F1 PC15/OSC32_OUT/EVENTOUT (io), F2 VSS (power), F3 VDD (power), F6 VSS (power), F7 VSS (power), F8 VSS (power), F9 VSS (power), F10 VSS (power), F12 VSS (power), F13 VCAP_2 (power), G1 PH0/OSC_IN/EVENTOUT (io), G2 VSS (power), G3 VDD (power), G6 VSS (power), G7 VSS (power), G8 VSS (power), G9 VSS (power), G10 VSS (power), G12 VSS (power), G13 VDD (power), H1 PH1/OSC_OUT/EVENTOUT (io), H6 VSS (power), H7 VSS (power), H8 VSS (power), H9 VSS (power), H10 VSS (power), H12 VSS (power), H13 VDDUSB (power), J1 NRST (in), J6 VSS (power), J7 VSS (power), J8 VSS (power), J9 VSS (power), J10 VSS (power), J12 VDD (power), J13 VDD (power), K4 VDD (power), K6 VSS (power), K7 VSS (power), K8 VSS (power), K9 VSS (power), K10 VSS (power), L4 BYPASS_REG (in), M1 VSSA (power), M8 VSS (power), M9 VSS (power), M10 VCAP_1 (power), N1 VREF- (power), N8 VDD (power), N9 VDD (power), N10 VDD (power), P1 VREF+ (power), R1 VDDA (power)
part B pins: A5 PB8 (io), A6 PB5 (io), A9 PB4 (io), A10 PB3 (io), A12 PC12 (io), B4 PB9 (io), B5 PB7 (io), B6 PB6 (io), B13 PC11 (io), B14 PC10 (io), D1 PC13 (io), F14 PC9 (io), G14 PC8 (io), G15 PC7 (io), H15 PC6 (io), M2 PC0 (io), M3 PC1 (io), M4 PC2 (io), M5 PC3 (io), M6 PB2 (io), N5 PC4 (io), P5 PC5 (io), P12 PB12 (io), P13 PB13 (io), R4 PB1 (io), R5 PB0 (io), R12 PB10 (io), R13 PB11 (io), R14 PB14 (io), R15 PB15 (io)
part C pins: A1 PE3 (io), A2 PE2 (io), A3 PE1 (io), A4 PE0 (io), A11 PD7 (io), B1 PE4 (io), B2 PE5 (io), B3 PE6 (io), B11 PD6 (io), B12 PD0 (io), C11 PD5 (io), C12 PD1 (io), D10 PD4 (io), D11 PD3 (io), D12 PD2 (io), L14 PD15 (io), M14 PD14 (io), M15 PD13 (io), N11 PE13 (io), N13 PD12 (io), N14 PD11 (io), N15 PD10 (io), P8 PE8 (io), P9 PE9 (io), P10 PE11 (io), P11 PE14 (io), P14 PD9 (io), P15 PD8 (io), R8 PE7 (io), R9 PE10 (io), R10 PE12 (io), R11 PE15 (io)
part D pins: A7 PG14 (io), A8 PG13 (io), B7 PG15 (io), B8 PG12 (io), B9 PG11 (io), B10 PG10 (io), C10 PG9 (io), E2 PF0 (io), H2 PF2 (io), H3 PF1 (io), H14 PG8 (io), J2 PF3 (io), J3 PF4 (io), J14 PG7 (io), J15 PG6 (io), K1 PF7 (io), K2 PF6 (io), K3 PF5 (io), K13 PG5 (io), K14 PG4 (io), K15 PG3 (io), L1 PF10 (io), L2 PF9 (io), L3 PF8 (io), L15 PG2 (io), M7 PG1 (io), N6 PF13 (io), N7 PG0 (io), P6 PF12 (io), P7 PF15 (io), R6 PF11 (io), R7 PF14 (io)
part E pins: C2 PI7 (io), C3 PI6 (io), C4 PI5 (io), C13 PI3 (io), C14 PI2 (io), D2 PI8 (io), D3 PI9 (io), D4 PI4 (io), D13 PH15 (io), D14 PI1 (io), E3 PI10 (io), E4 PI11 (io), E12 PH13 (io), E13 PH14 (io), E14 PI0 (io), F4 PH2 (io), G4 PH3 (io), H4 PH4 (io), J4 PH5 (io), K12 PH12 (io), L12 PH11 (io), L13 PH10 (io), M11 PH6 (io), M12 PH8 (io), M13 PH9 (io), N12 PH7 (io)
part F pins: A13 PA15 (io), A14 PA14 (io), A15 PA13 (io), B15 PA12 (io), C15 PA11 (io), D15 PA10 (io), E15 PA9 (io), F15 PA8 (io), N2 PA1 (io), N3 PA0 (io), N4 PA4 (io), P2 PA2 (io), P3 PA6 (io), P4 PA5 (io), R2 PA3 (io), R3 PA7 (io)

## STM32G0B1CxT6
designator IC?
Integrated Circuit; Manufacturer_Name: STMicroelectronics; Manufacturer_Part_Number: STM32G0B1CET6; Datasheet Link: https://www.st.com/resource/en/datasheet/stm32g0b1cc.pdf; Height: 1.6mm; Mouser Part Number: 511-STM32G0B1CET6; Mouser Price/Stock: https://www.mouser.co.uk/ProductDetail/STMicroelectronics/STM32G0B1CET6?qs=CiayqK2gdcIkdSrUgV%252Bfag%3D%3D; Arrow Part Number: STM32G0B1CET6; Arrow Price/Stock: https://www.arrow.com/en/products/stm32g0b1cet6/stmicroelectronics?region=nac
footprint QFP50P900X900X160-48N
pins: 1 PC13, 2 PC14-OSC32_IN, 3 PC15-OSC32_OUT, 4 VBAT, 5 VREF+, 6 VDD/VDDA, 7 VSS/VSSA, 8 PF0-OSC_IN, 9 PF1-OSC_OUT, 10 PF2-NRST, 11 PA0, 12 PA1, 13 PA2, 14 PA3, 15 PA4, 16 PA5, 17 PA6, 18 PA7, 19 PB0, 20 PB1, 21 PB2, 22 PB10, 23 PB11, 24 PB12, 25 PB13, 26 PB14, 27 PB15, 28 PA8, 29 PA9, 30 PC6, 31 PC7, 32 PA10, 33 PA11_[PA9], 34 PA12_[PA10], 35 PA13, 36 PA14-BOOT0, 37 PA15, 38 PD0, 39 PD1, 40 PD2, 41 PD3, 42 PB3, 43 PB4, 44 PB5, 45 PB6, 46 PB7, 47 PB8, 48 PB9

## STM32G0B1CxT6N
designator IC?
Integrated Circuit; Manufacturer_Name: STMicroelectronics; Manufacturer_Part_Number: STM32G0B1CET6N; Datasheet Link: https://www.st.com/resource/en/datasheet/stm32g0b1cc.pdf; Height: 1.6mm; Mouser Part Number: 511-STM32G0B1CET6N; Mouser Price/Stock: https://www.mouser.co.uk/ProductDetail/STMicroelectronics/STM32G0B1CET6N?qs=CiayqK2gdcK2xI5l7E1NcQ%3D%3D; Arrow Part Number: STM32G0B1CET6N; Arrow Price/Stock: https://www.arrow.com/en/products/stm32g0b1cet6n/stmicroelectronics?region=nac
footprint QFP50P900X900X160-48N
pins: 1 PC13, 2 PC14-OSC32_IN, 3 PC15-OSC32_OUT, 4 VBAT, 5 VREF+, 6 VDD/VDDA, 7 VSS/VSSA, 8 PF0-OSC_IN, 9 PF1-OSC_OUT, 10 PF2-NRST, 11 PA0, 12 PA1, 13 PA2, 14 PA3, 15 PA4, 16 PA5, 17 PA6, 18 PA7, 19 PB0, 20 PB1, 21 PB2, 22 PB10, 23 PB11, 24 PB12, 25 PB13, 26 PB14, 27 PB15, 28 PA8, 29 PA9, 30 VSS, 31 VDDIO2, 32 PA10, 33 PA11_[PA9], 34 PA12_[PA10], 35 PA13, 36 PA14-BOOT0, 37 PA15, 38 PD0, 39 PD1, 40 PD2, 41 PD3, 42 PB3, 43 PB4, 44 PB5, 45 PB6, 46 PB7, 47 PB8, 48 PB9

## STM32G0B1CxU6
designator IC?
Integrated Circuit; Manufacturer_Name: STMicroelectronics; Manufacturer_Part_Number: STM32G0B1CCU6; Datasheet Link: https://www.arrow.com/en/products/stm32g0b1ccu6/stmicroelectronics; Height: 0.6mm; Mouser Part Number: 511-STM32G0B1CCU6; Mouser Price/Stock: https://www.mouser.co.uk/ProductDetail/STMicroelectronics/STM32G0B1CCU6?qs=pUKx8fyJudC4OyO6dw1N1A%3D%3D; Arrow Part Number: STM32G0B1CCU6; Arrow Price/Stock: https://www.arrow.com/en/products/stm32g0b1ccu6/stmicroelectronics
footprint QFN50P700X700X60-49N-D
pins: 1 PC13, 2 PC14-OSC32_IN, 3 PC15-OSC32_OUT, 4 VBAT, 5 VREF+, 6 VDD/VDDA, 7 VSS/VSSA, 8 PF0-OSC_IN, 9 PF1-OSC_OUT, 10 PF2-NRST, 11 PA0, 12 PA1, 13 PA2, 14 PA3, 15 PA4, 16 PA5, 17 PA6, 18 PA7, 19 PB0, 20 PB1, 21 PB2, 22 PB10, 23 PB11, 24 PB12, 25 PB13, 26 PB14, 27 PB15, 28 PA8, 29 PA9, 30 PC6, 31 PC7, 32 PA10, 33 PA11_[PA9], 34 PA12_[PA10], 35 PA13, 36 PA14-BOOT0, 37 PA15, 38 PD0, 39 PD1, 40 PD2, 41 PD3, 42 PB3, 43 PB4, 44 PB5, 45 PB6, 46 PB7, 47 PB8, 48 PB9, 49 VSS

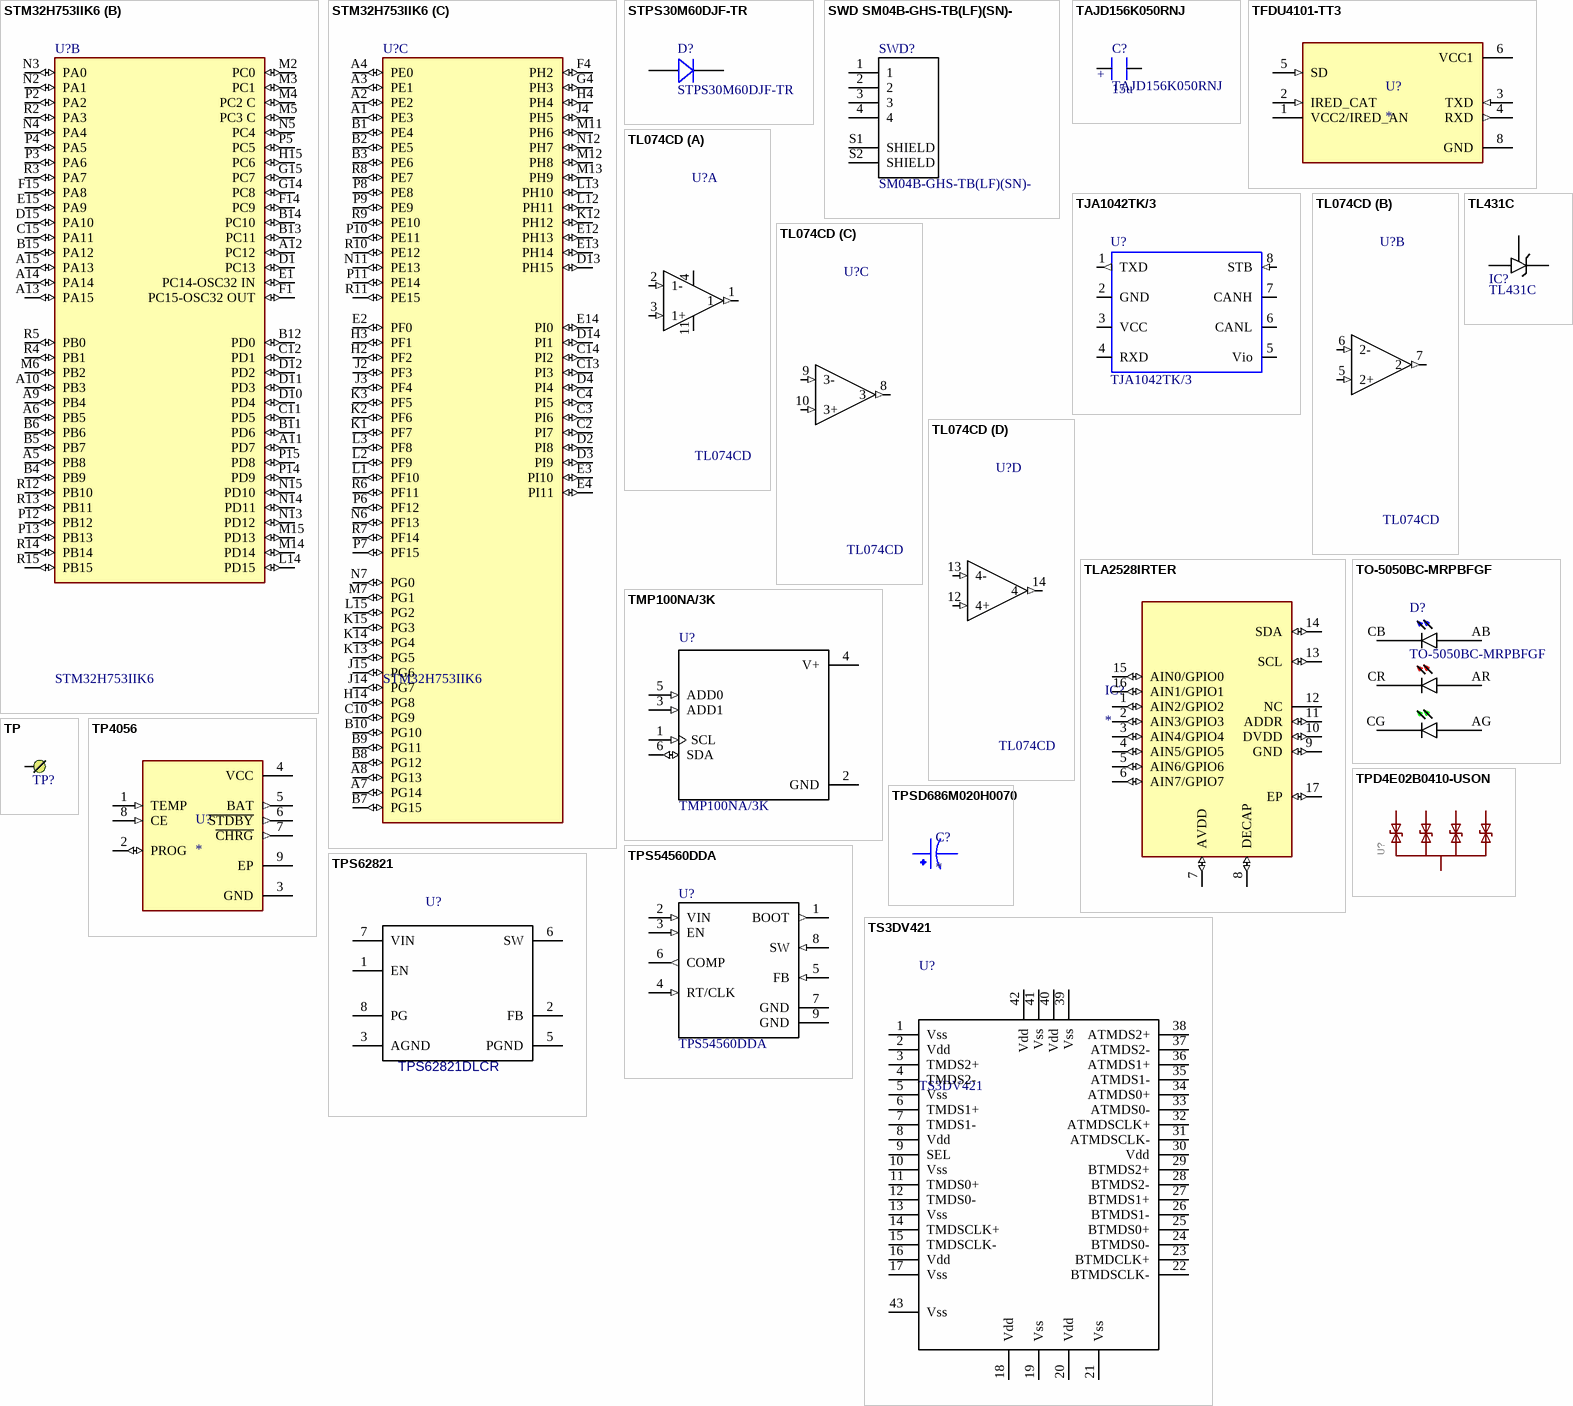
[diagram p17: symbols STM32H753IIK6 to TS3DV421]

## STM32H753IIK6
designator U?
UFBGA 10X10X0.6 176+; MF: STMicroelectronics; Package: UFBGA176+25-A0E7; HelpURL: https://nl.mouser.com/datasheet/2/389/stm32h753vi-1839589.pdf; MP: STM32H753IIK6
footprint FP-UFBGA176+25-A0E7-MFG
part A pins: C1 VBAT (power), C5 VDD (power), C6 PDR ON (in), C7 VDD (power), C8 VDD (power), C9 VDD (power), D5 VSS (power), D6 BOOT0 (in), D7 VSS (power), D8 VSS (power), D9 VSS (power), F2 VSS (power), F3 VDD (power), F6 VSS (power), F7 VSS (power), F8 VSS (power), F9 VSS (power), F10 VSS (power), F12 VSS (power), F13 VCAP (power), G1 PH0-OSC IN (io), G2 VSS (power), G3 VDD (power), G6 VSS (power), G7 VSS (power), G8 VSS (power), G9 VSS (power), G10 VSS (power), G12 VSS (power), G13 VDD (power), H1 PH1-OSC OUT (io), H6 VSS (power), H7 VSS (power), H8 VSS (power), H9 VSS (power), H10 VSS (power), H12 VSS (power), H13 VDD33USB (power), J1 ~{RST} (in), J6 VSS (power), J7 VSS (power), J8 VSS (power), J9 VSS (power), J10 VSS (power), J12 VDD (power), J13 VDD (power), K4 VDD (power), K6 VSS (power), K7 VSS (power), K8 VSS (power), K9 VSS (power), K10 VSS (power), L4 VSS (power), M1 VSSA (power), M8 VSS (power), M9 VSS (power), M10 VCAP (power), N1 VREF- (power), N8 VDD (power), N9 VDD (power), N10 VDD (power), P1 VREF+ (power), R1 VDDA (power)
part B pins: A5 PB8 (io), A6 PB5 (io), A9 PB4 (io), A10 PB3 (io), A11 PD7 (io), A12 PC12 (io), A13 PA15 (io), A14 PA14 (io), A15 PA13 (io), B4 PB9 (io), B5 PB7 (io), B6 PB6 (io), B11 PD6 (io), B12 PD0 (io), B13 PC11 (io), B14 PC10 (io), B15 PA12 (io), C11 PD5 (io), C12 PD1 (io), C15 PA11 (io), D1 PC13 (io), D10 PD4 (io), D11 PD3 (io), D12 PD2 (io), D15 PA10 (io), E1 PC14-OSC32 IN (io), E15 PA9 (io), F1 PC15-OSC32 OUT (io), F14 PC9 (io), F15 PA8 (io), G14 PC8 (io), G15 PC7 (io), H15 PC6 (io), L14 PD15 (io), M2 PC0 (io), M3 PC1 (io), M4 PC2 C (io), M5 PC3 C (io), M6 PB2 (io), M14 PD14 (io), M15 PD13 (io), N2 PA1 (io), N3 PA0 (io), N4 PA4 (io), N5 PC4 (io), N13 PD12 (io), N14 PD11 (io), N15 PD10 (io), P2 PA2 (io), P3 PA6 (io), P4 PA5 (io), P5 PC5 (io), P12 PB12 (io), P13 PB13 (io), P14 PD9 (io), P15 PD8 (io), R2 PA3 (io), R3 PA7 (io), R4 PB1 (io), R5 PB0 (io), R12 PB10 (io), R13 PB11 (io), R14 PB14 (io), R15 PB15 (io)
part C pins: A1 PE3 (io), A2 PE2 (io), A3 PE1 (io), A4 PE0 (io), A7 PG14 (io), A8 PG13 (io), B1 PE4 (io), B2 PE5 (io), B3 PE6 (io), B7 PG15 (io), B8 PG12 (io), B9 PG11 (io), B10 PG10 (io), C2 PI7 (io), C3 PI6 (io), C4 PI5 (io), C10 PG9 (io), C13 PI3 (io), C14 PI2 (io), D2 PI8 (io), D3 PI9 (io), D4 PI4 (io), D13 PH15 (io), D14 PI1 (io), E2 PF0 (io), E3 PI10 (io), E4 PI11 (io), E12 PH13 (io), E13 PH14 (io), E14 PI0 (io), F4 PH2 (io), G4 PH3 (io), H2 PF2 (io), H3 PF1 (io), H4 PH4 (io), H14 PG8 (io), J2 PF3 (io), J3 PF4 (io), J4 PH5 (io), J14 PG7 (io), J15 PG6 (io), K1 PF7 (io), K2 PF6 (io), K3 PF5 (io), K12 PH12 (io), K13 PG5 (io), K14 PG4 (io), K15 PG3 (io), L1 PF10 (io), L2 PF9 (io), L3 PF8 (io), L12 PH11 (io), L13 PH10 (io), L15 PG2 (io), M7 PG1 (io), M11 PH6 (io), M12 PH8 (io), M13 PH9 (io), N6 PF13 (io), N7 PG0 (io), N11 PE13 (io), N12 PH7 (io), P6 PF12 (io), P7 PF15 (io), P8 PE8 (io), P9 PE9 (io), P10 PE11 (io), P11 PE14 (io), R6 PF11 (io), R7 PF14 (io), R8 PE7 (io), R9 PE10 (io), R10 PE12 (io), R11 PE15 (io)

## STPS30M60DJF-TR
designator D?
STPS30M60DJF-TR, 60V 30A, Schottky Diode, 8-Pin PowerFLAT; MF: ST Microelectronics; Value: *; MP: STPS30M60DJF-TR; Package: PowerFLAT 5x6; SnapEDA_Link: https://www.snapeda.com/parts/STPS30M60DJF-TR/STMicroelectronics/view-part/?ref=search&t=STPS30M60DJF-TR; ChipDip_Link: https://www.chipdip.ru/product/stps30m60djf-tr-schottky-diode-60v-30a-po; HelpURL: http://www.farnell.com/datasheets/2308501.pdf; Instructions: *; System: *
footprint PowerFLAT 5x6
pins: 1 A, 2 C

## SWD SM04B-GHS-TB(LF)(SN)-
designator SWD?, comment SM04B-GHS-TB(LF)(SN)-
Conn Shrouded Header HDR 4 POS 1.25mm Solder ST SMD Reel; MF: JST Sales; Instructions: Do not install; System: Connector; SnapEDA_Link: https://www.snapeda.com/parts/BM04B-GHS-TBT%28LF%29%28SN%29%28N%29/JST%20Sales%20America%20Inc./view-part/?ref=snap; MP: SM04B-GHS-TB(LF)(SN); Package: None; Value: *; Type: SMD
footprint JST_BM04B-GHS-holes
pins: 1, 2, 3, 4, S1 SHIELD, S2 SHIELD

## TAJD156K050RNJ
designator C?  value 15u
TAJD156K050RNJ, Танталовые конденсаторы - твердые, для поверхностного монтажа 50V 15uF 10%; Type: SMD; MP: TAJD156K050RNJ; SnapEDA_Link: https://www.snapeda.com/parts/TAJD156K050RNJ/AVX/view-part/1681076/?ref=search&t=TAJD156K050RNJ; Package: SMD 7343; ChipDip_Link: https://www.chipdip.ru/product1/8007242628; HelpURL: https://www.chipdip.ru/product1/8007242628
footprint CAPPM7343X310N - duplicate
pins: 1, 2
text: +

## TFDU4101-TT3
designator U?
115.2kbs _SIR_ IRDA Transceiver Top View; MP: TFDU4101-TT3; MF: Vishay Semiconductor; Value: *; SnapEDA_Link: https://www.snapeda.com/parts/TFDU4101-TT3/Vishay%20Semiconductor%20Opto%20Division/view-part/53180/?ref=snap; Package: SOP-8 Vishay; HelpURL: https://static.chipdip.ru/lib/356/DOC014356789.pdf
footprint XDCR_TFDU4101-TT3
pins: 1 VCC2/IRED_AN, 2 IRED_CAT (in), 3 TXD (in), 4 RXD (out), 5 SD (in), 6 VCC1 (power), 8 GND (power)

## TJA1042TK/3
designator U?
1/1 Transceiver Half CANbus 8-SO; MF: NXP USA; SnapEDA_Link: https://www.snapeda.com/parts/TJA1042/NXP%20USA%20Inc./view-part/900919/?ref=snap; Value: *; MP: TJA1042TK/3; Package: VDFN-8 NXP USA; ChipDip_Link: https://www.chipdip.ru/product1/8002988465; HelpURL: https://static.chipdip.ru/lib/583/DOC001583059.pdf; Type: SMD
footprint SOT782-1
pins: 1 TXD (out), 2 GND (power), 3 VCC (power), 4 RXD (io), 5 Vio (power), 6 CANL (io), 7 CANH (io), 8 STB (in)

## TL074CD
designator U?
J-FET Amplifier 4 Circuit 14-SO; MF: STMicroelectronics; Package: SOIC-14 STMicroelectronics; SnapEDA_Link: https://www.snapeda.com/parts/TL074CD/STMicroelectronics/view-part/270103/?ref=snap; MP: TL074CD; Value: *
footprint *SOIC127P600X175-14N
part A pins: 1 (out), 2 1- (in), 3 1+ (in), 4 VCC+ (power), 11 VCC- (power)
part B pins: 5 2+ (in), 6 2- (in), 7 2 (out)
part C pins: 8 3 (out), 9 3- (in), 10 3+ (in)
part D pins: 12 4+ (in), 13 4- (in), 14 4 (out)

## TL431C
designator IC?
MF: HTC Korea; SnapEDA_Link: https://www.snapeda.com/parts/TL431C/HTC%20Korea/view-part/?ref=snap; Package: TO-236-3 HTC Korea; MP: TL431C; Value: *
footprint *SOT23-3
pins: 1 K, 2 REF, 3 A

## TLA2528IRTER
designator IC?
Small 8-channel 12-bit analog-to-digital converter (ADC) with I2C interface and GPIOs; MF: Texas Instruments; MP: TLA2528IRTER; SnapEDA_Link: https://www.snapeda.com/parts/TLA2528IRTER/Texas+Instruments/view-part/?ref=snap; Package: WQFN-16 Texas Instruments; Value: *; Check_prices: https://www.snapeda.com/parts/TLA2528IRTER/Texas+Instruments/view-part/?ref=eda; HelpURL: https://www.ti.com/lit/ds/symlink/tla2528.pdf?ts=1766516674835
footprint QFN50P300X300X80-17N
pins: 1 AIN2/GPIO2 (io), 2 AIN3/GPIO3 (io), 3 AIN4/GPIO4 (io), 4 AIN5/GPIO5 (io), 5 AIN6/GPIO6 (io), 6 AIN7/GPIO7 (io), 7 AVDD (io), 8 DECAP (io), 9 GND (io), 10 DVDD (io), 11 ADDR (io), 12 NC, 13 SCL (io), 14 SDA (io), 15 AIN0/GPIO0 (io), 16 AIN1/GPIO1 (io), 17 EP (io)

## TMP100NA/3K
designator U?
Temperature Sensor Digital, Local -55В°C ~ 125В°C 11 b SOT-23-6; MF: Texas Instruments; Package: SOT-23 Texas Instruments; SnapEDA_Link: https://www.snapeda.com/parts/TMP100NA/3K/Texas%20Instruments/view-part/110634/?ref=snap; MP: TMP100NA/3K; Value: *
footprint *SOT95P280X145-6N
pins: 1 SCL (in), 2 GND (power), 3 ADD1 (in), 4 V+ (power), 5 ADD0 (in), 6 SDA (io)

## TO-5050BC-MRPBFGF
designator D?
TO-5050BC-MRPBFGF, Светодиод SMD 5050 RGB 120°; Package: SMD 5050; SnapEDA_Link: https://www.snapeda.com/parts/LL-R5050BC-B4-1B/Lucky%20Light/view-part/?ref=search&t=TO-5050BC#download-modal; Value: RGB; ChipDip_Link: https://www.chipdip.ru/product/to-5050bc-mrpbfgf; HelpURL: https://static.chipdip.ru/lib/736/DOC002736076.pdf
footprint *PLCC-6-LED
pins: AB, AG, AR, CB, CG, CR

## TP
designator TP?  (value not drawn)
footprint PAD1
pins: 1

## TP4056
designator U?
Complete single cell Li-Ion battery with a constant current / constant voltage linear charger; MF: NanJing Top Power ASIC Corp.; MP: TP4056; Check_prices: https://www.snapeda.com/parts/TP4056/NanJing+Top+Power+ASIC+Corp./view-part/?ref=eda; SnapEDA_Link: https://www.snapeda.com/parts/TP4056/NanJing+Top+Power+ASIC+Corp./view-part/?ref=snap; Price: None; Availability: Not in stock; Package: Package; Value: *
footprint SOP127P600X175-9N
pins: 1 TEMP (in), 2 PROG (io), 3 GND (power), 4 VCC (power), 5 BAT (out), 6 ~{STDBY} (out), 7 ~{CHRG} (out), 8 CE (in), 9 EP

## TPD4E02B0410-USON
designator U?  (value not drawn)
TPD4E02B04 4-Channel ESD Protection Diode for USB Type-C and HDMI 2.0    http://www.ti.com/lit/ds/symlink/tpd4e02b04.pdf; ChipDip_Link: https://www.chipdip.ru/product1/8002302399; HelpURL: https://static.chipdip.ru/lib/326/DOC012326263.pdf
footprint IC_TPD4EUSB30DQAR
pins: 1,10 P1, 2,9 P2, 3,8 SHIELD, 4,7 P3, 5,6 P4

## TPS54560DDA
designator U?
60 V Input, 5 A, Step-Down DC-DC Converter with Eco-Mode 8-SO PowerPAD -40 to 125; MF: Texas Instruments; SnapEDA_Link: https://www.snapeda.com/parts/TPS54560DDA/Texas%20Instruments/view-part/?ref=snap; MP: TPS54560DDA; Package: PowerSOIC-8 Texas Instruments; Value: *
footprint *SOIC127P600X170-9N
pins: 1 BOOT (out), 2 VIN (in), 3 EN (in), 4 RT/CLK (in), 5 FB (in), 6 COMP (out), 7 GND (power), 8 SW (in), 9 GND (power)

## TPS62821
designator U?, comment TPS62821DLCR
TPS6282x 5.5-V, 1-A, 2-A, 3-A Step-Down Converter Family / with 1% Accuracy; MF: Texas Instruments; Package: QFN (8)  VSON-8(1.5x2); SnapEDA_Link: https://www.snapeda.com/parts/SPX3819M5-L/MaxLinear%2C%20Inc./view-part/?ref=snap; Type: SMD; ChipDip_Link: https://www.lcsc.com/product-detail/DC-DC-Converters_Texas-Instruments-TPS62821DLCR_C469860.html?s_z=n_TPS62821DLC; HelpURL: https://www.lcsc.com/datasheet/lcsc_datasheet_2410122007_Texas-Instruments-TPS62821DLCR_C469860.pdf; MP: TPS62821DLCR
footprint SON50P200X150X100-8N
pins: 1 EN (power), 2 FB (power), 3 AGND, 5 PGND, 6 SW (power), 7 VIN (power), 8 PG (power)

## TPSD686M020H0070
designator C?
Cap Tant Solid 68uF 20V D CASE 20% (7.3 X 4.3 X 2.9mm) SMD 7343-31 0.07 Ohm 125Â°C T/R; MF: AVX; MP: TPSD686M020H0070; Package: 2917 AVX; Purchase-URL: https://pricing.snapeda.com/search/part/TPSD686M020H0070/?ref=eda; SnapEDA_Link: https://www.snapeda.com/parts/TPSD686M020H0070/AVX/view-part/?ref=snap; Value: *
footprint CAPPM7343X310N
pins: 1, 2

## TS3DV421
designator U?
3.8-Gbps 4-channel differential 8-to-16 and 16-to-8 mux for DVI 1.0/HDMI 1.3 applications; MP: TS3DV421RUAR; Package: None; Value: *; HelpURL: https://www.ti.com/lit/ds/symlink/ts3dv421.pdf?ts=1644685689965
footprint QFN50P900X350X80-43N
pins: 1 Vss, 2 Vdd, 3 TMDS2+, 4 TMDS2-, 5 Vss, 6 TMDS1+, 7 TMDS1-, 8 Vdd, 9 SEL, 10 Vss, 11 TMDS0+, 12 TMDS0-, 13 Vss, 14 TMDSCLK+, 15 TMDSCLK-, 16 Vdd, 17 Vss, 18 Vdd, 19 Vss, 20 Vdd, 21 Vss, 22 BTMDSCLK-, 23 BTMDCLK+, 24 BTMDS0-, 25 BTMDS0+, 26 BTMDS1-, 27 BTMDS1+, 28 BTMDS2-, 29 BTMDS2+, 30 Vdd, 31 ATMDSCLK-, 32 ATMDSCLK+, 33 ATMDS0-, 34 ATMDS0+, 35 ATMDS1-, 36 ATMDS1+, 37 ATMDS2-, 38 ATMDS2+, 39 Vss, 40 Vdd, 41 Vss, 42 Vdd, 43 Vss

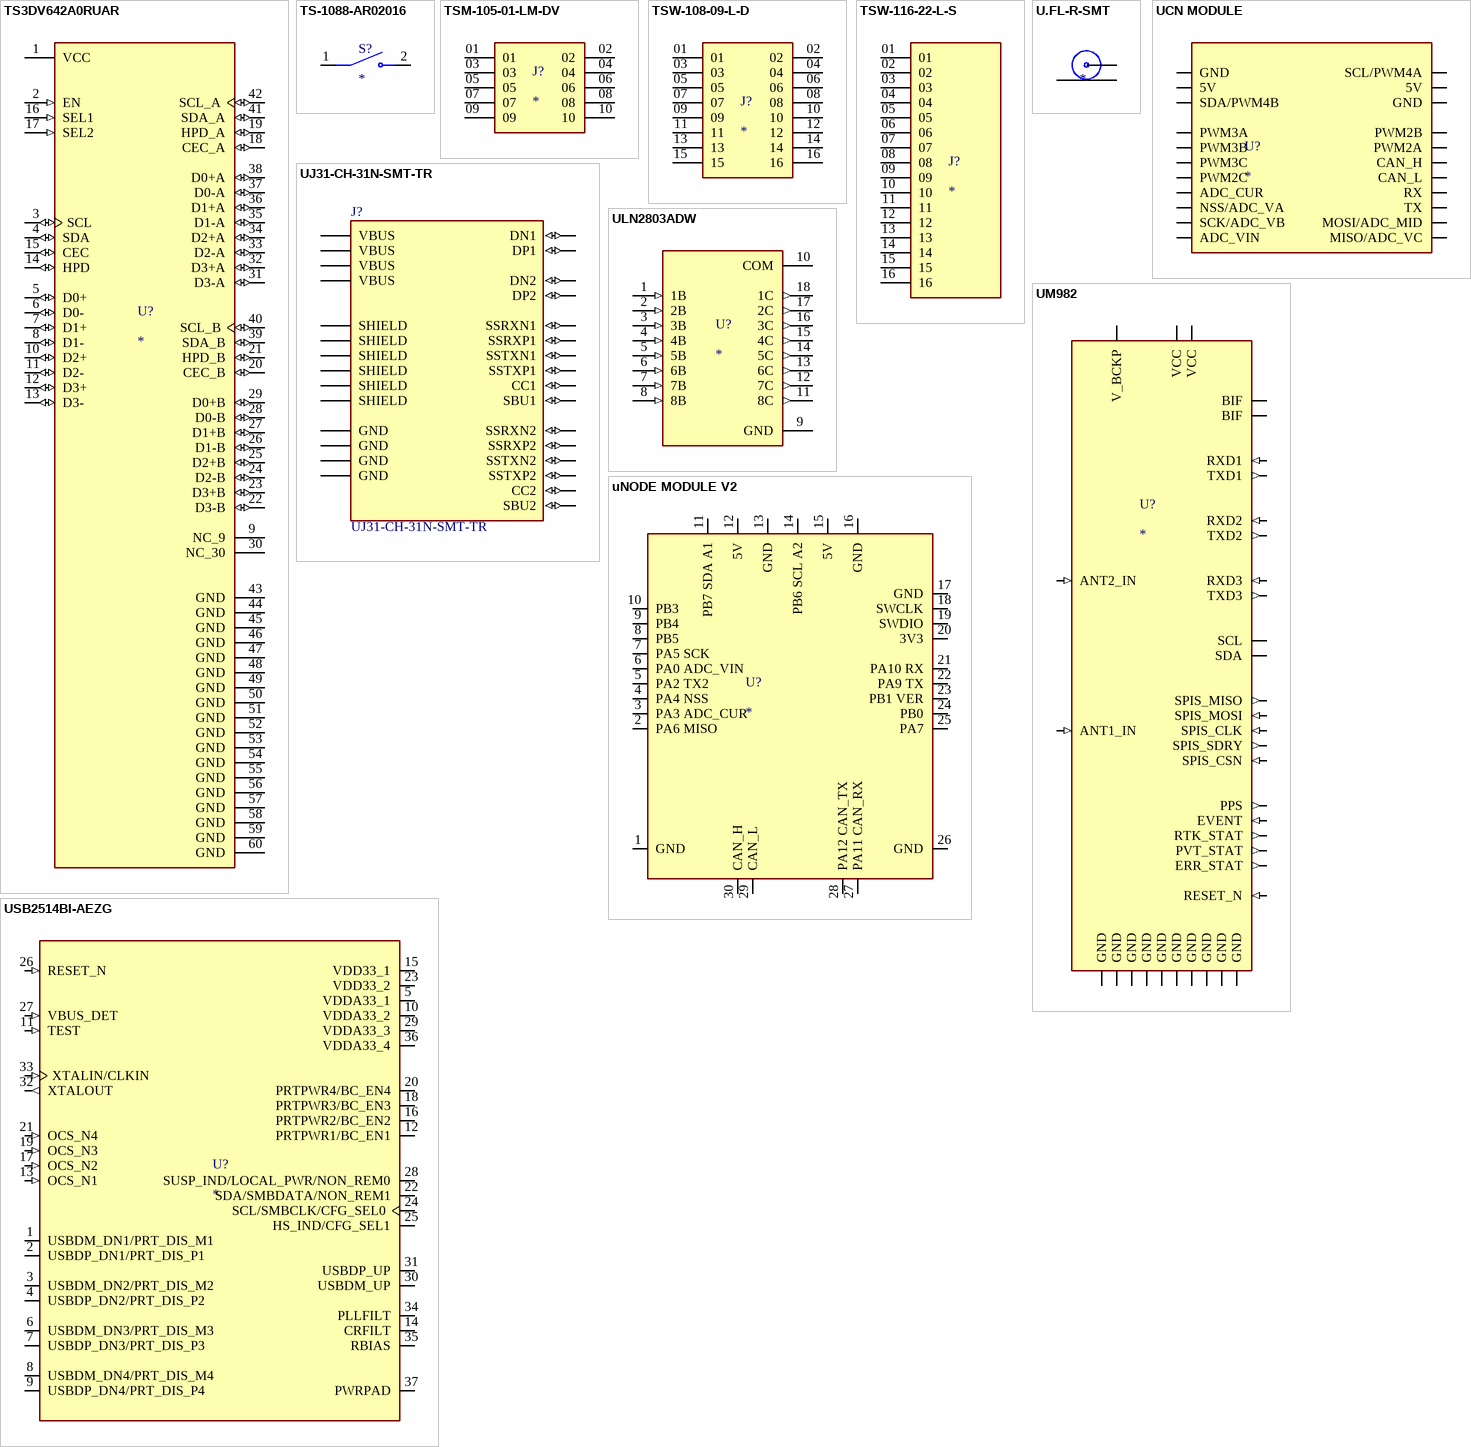
[diagram p18: symbols TS3DV642A0RUAR to USB2514BI-AEZG]